# Altium schematic symbol library 3.0 - STM32L0-L1-L4系列单片机.SchLib: 39 symbols (part 2 of 3)
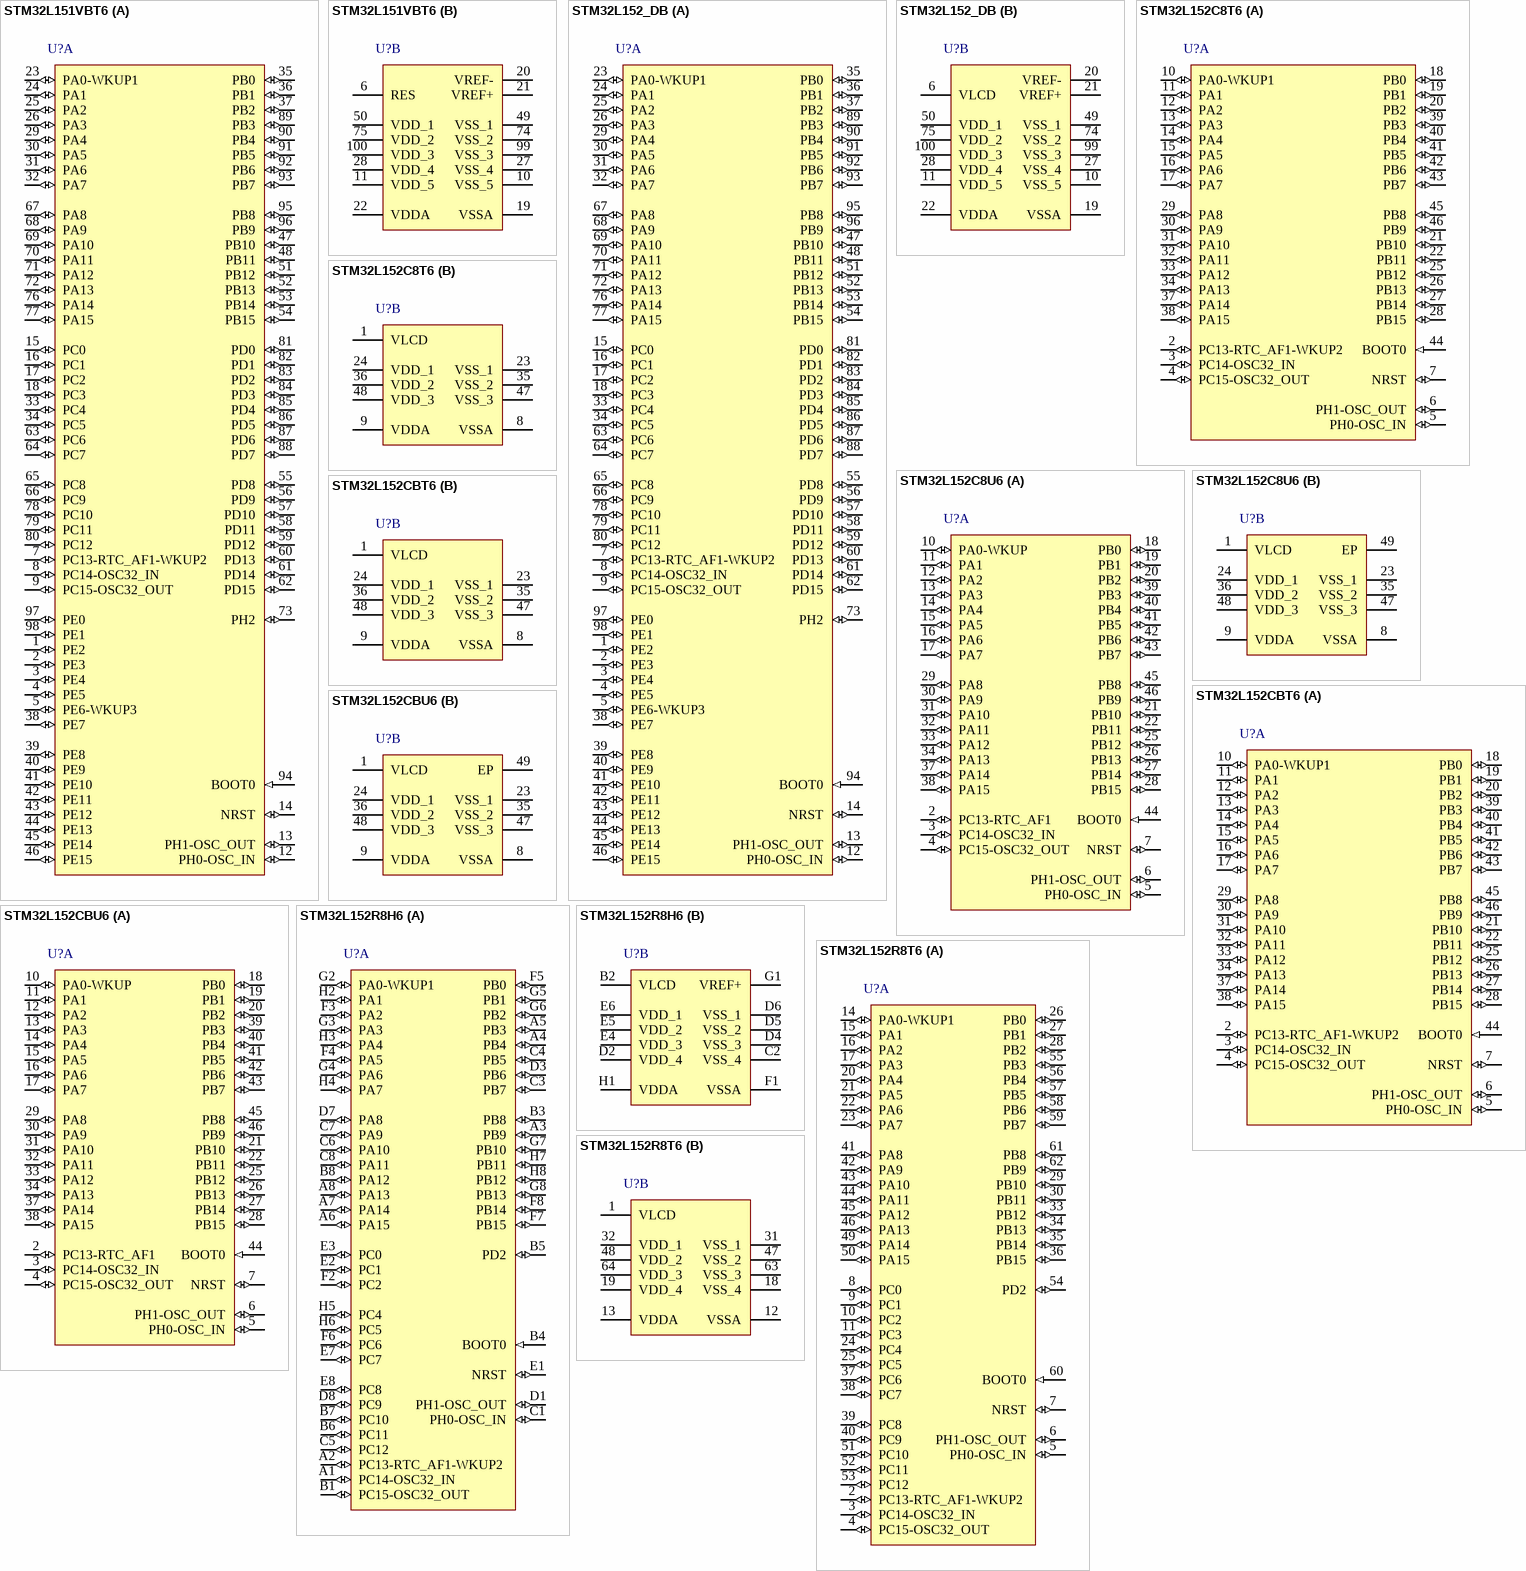
[diagram p7: symbols STM32L151VBT6 to STM32L152R8T6]

## STM32L152C8T6
designator U?
STM32L ARM-based EnergyLite 32-bit MCU, LCD, 64 kB Flash, 10 kB Internal RAM, -40 to +85癈 Temperature, 48-pin LQFP, Tray; 封装库来自淘宝卖家ID：黄晶宝石: 其他店铺购入均为盗版假冒封装库,请立即申请退款，本店现金奖励100~1000元; DatasheetVersion: rev6, Jan-2012; PackageVersion: rev13, Apr-2011; PackageReference: LQFP48; PackageDescription: 48-Pin Low-Profile Quad Flat Pack, 7 x 7 mm Body, 0.5 mm Pitch (LQFP48); ComponentLink1Description: Manufacturer URL; ComponentLink1URL: http://www.st.com/; ComponentLink2Description: STM32L151/152 Datasheet; ComponentLink2URL: http://www.st.com/internet/com/TECHNICAL_RESOURCES/TECHNICAL_LITERATURE/DATASHEET/CD00277537.pdf; ComponentLink3Description: STM32 L1 Family Web Page; ComponentLink3URL: http://www.st.com/internet/mcu/subclass/1376.jsp
footprint LQFP48_N (Thin QFP, 48-Leads, Body 7x7mm, Pitch 0.5mm, IPC Medium Density)
footprint LQFP48_L (Thin QFP, 48-Leads, Body 7x7mm, Pitch 0.5mm, IPC High Density)
footprint LQFP48_M (Thin QFP, 48-Leads, Body 7x7mm, Pitch 0.5mm, IPC Low Density)
part A pins: 2 PC13-RTC_AF1-WKUP2 (io), 3 PC14-OSC32_IN (io), 4 PC15-OSC32_OUT (io), 5 PH0-OSC_IN (io), 6 PH1-OSC_OUT (io), 7 NRST (io), 10 PA0-WKUP1 (io), 11 PA1 (io), 12 PA2 (io), 13 PA3 (io), 14 PA4 (io), 15 PA5 (io), 16 PA6 (io), 17 PA7 (io), 18 PB0 (io), 19 PB1 (io), 20 PB2 (io), 21 PB10 (io), 22 PB11 (io), 25 PB12 (io), 26 PB13 (io), 27 PB14 (io), 28 PB15 (io), 29 PA8 (io), 30 PA9 (io), 31 PA10 (io), 32 PA11 (io), 33 PA12 (io), 34 PA13 (io), 37 PA14 (io), 38 PA15 (io), 39 PB3 (io), 40 PB4 (io), 41 PB5 (io), 42 PB6 (io), 43 PB7 (io), 44 BOOT0 (in), 45 PB8 (io), 46 PB9 (io)
part B pins: 1 VLCD (power), 8 VSSA (power), 9 VDDA (power), 23 VSS_1 (power), 24 VDD_1 (power), 35 VSS_2 (power), 36 VDD_2 (power), 47 VSS_3 (power), 48 VDD_3 (power)

## STM32L152C8U6
designator U?
STM32L ARM-based EnergyLite 32-bit MCU, LCD, 64 kB Flash, 10 kB Internal RAM, -40 to +85癈 Temperature, 48-pin UFQFPN, Tray; 封装库来自淘宝卖家ID：黄晶宝石: 其他店铺购入均为盗版假冒封装库,请立即申请退款，本店现金奖励100~1000元; DatasheetVersion: rev6, Jan-2012; PackageVersion: 2011; PackageReference: UFQFPN48; PackageDescription: 48-Pin Ultra Thin Fine Pitch Quad Flat No-Lead, 7 x 7 x 0.55 mm Body, 0.5 mm Pitch, Exposed Pad; ComponentLink1Description: Manufacturer URL; ComponentLink1URL: http://www.st.com/; ComponentLink2Description: STM32L151/152 Datasheet; ComponentLink2URL: http://www.st.com/internet/com/TECHNICAL_RESOURCES/TECHNICAL_LITERATURE/DATASHEET/CD00277537.pdf; ComponentLink3Description: STM32 L1 Family Web Page; ComponentLink3URL: http://www.st.com/internet/mcu/subclass/1376.jsp
footprint UFQFPN48_N (QFN, 48-Leads, Body 7x7mm, Pitch 0.5mm, Thermal Pad 5.6x5.6mm, IPC Medium Density)
footprint UFQFPN48_L (QFN, 48-Leads, Body 7x7mm, Pitch 0.5mm, Thermal Pad 5.6x5.6mm, IPC High Density)
footprint UFQFPN48_M (QFN, 48-Leads, Body 7x7mm, Pitch 0.5mm, Thermal Pad 5.6x5.6mm, IPC Low Density)
part A pins: 2 PC13-RTC_AF1 (io), 3 PC14-OSC32_IN (io), 4 PC15-OSC32_OUT (io), 5 PH0-OSC_IN (io), 6 PH1-OSC_OUT (io), 7 NRST (io), 10 PA0-WKUP (io), 11 PA1 (io), 12 PA2 (io), 13 PA3 (io), 14 PA4 (io), 15 PA5 (io), 16 PA6 (io), 17 PA7 (io), 18 PB0 (io), 19 PB1 (io), 20 PB2 (io), 21 PB10 (io), 22 PB11 (io), 25 PB12 (io), 26 PB13 (io), 27 PB14 (io), 28 PB15 (io), 29 PA8 (io), 30 PA9 (io), 31 PA10 (io), 32 PA11 (io), 33 PA12 (io), 34 PA13 (io), 37 PA14 (io), 38 PA15 (io), 39 PB3 (io), 40 PB4 (io), 41 PB5 (io), 42 PB6 (io), 43 PB7 (io), 44 BOOT0 (in), 45 PB8 (io), 46 PB9 (io)
part B pins: 1 VLCD (power), 8 VSSA (power), 9 VDDA (power), 23 VSS_1 (power), 24 VDD_1 (power), 35 VSS_2 (power), 36 VDD_2 (power), 47 VSS_3 (power), 48 VDD_3 (power), 49 EP (power)

## STM32L152CBT6
designator U?
STM32L ARM-based EnergyLite 32-bit MCU, LCD, 128 kB Flash, 16 kB Internal RAM, -40 to +85癈 Temperature, 48-pin LQFP, Tray; 封装库来自淘宝卖家ID：黄晶宝石: 其他店铺购入均为盗版假冒封装库,请立即申请退款，本店现金奖励100~1000元; DatasheetVersion: rev6, Jan-2012; PackageVersion: rev13, Apr-2011; PackageReference: LQFP48; PackageDescription: 48-Pin Low-Profile Quad Flat Pack, 7 x 7 mm Body, 0.5 mm Pitch (LQFP48); ComponentLink1Description: Manufacturer URL; ComponentLink1URL: http://www.st.com/; ComponentLink2Description: STM32L151/152 Datasheet; ComponentLink2URL: http://www.st.com/internet/com/TECHNICAL_RESOURCES/TECHNICAL_LITERATURE/DATASHEET/CD00277537.pdf; ComponentLink3Description: STM32 L1 Family Web Page; ComponentLink3URL: http://www.st.com/internet/mcu/subclass/1376.jsp
footprint LQFP48_N (Thin QFP, 48-Leads, Body 7x7mm, Pitch 0.5mm, IPC Medium Density)
footprint LQFP48_L (Thin QFP, 48-Leads, Body 7x7mm, Pitch 0.5mm, IPC High Density)
footprint LQFP48_M (Thin QFP, 48-Leads, Body 7x7mm, Pitch 0.5mm, IPC Low Density)
part A pins: 2 PC13-RTC_AF1-WKUP2 (io), 3 PC14-OSC32_IN (io), 4 PC15-OSC32_OUT (io), 5 PH0-OSC_IN (io), 6 PH1-OSC_OUT (io), 7 NRST (io), 10 PA0-WKUP1 (io), 11 PA1 (io), 12 PA2 (io), 13 PA3 (io), 14 PA4 (io), 15 PA5 (io), 16 PA6 (io), 17 PA7 (io), 18 PB0 (io), 19 PB1 (io), 20 PB2 (io), 21 PB10 (io), 22 PB11 (io), 25 PB12 (io), 26 PB13 (io), 27 PB14 (io), 28 PB15 (io), 29 PA8 (io), 30 PA9 (io), 31 PA10 (io), 32 PA11 (io), 33 PA12 (io), 34 PA13 (io), 37 PA14 (io), 38 PA15 (io), 39 PB3 (io), 40 PB4 (io), 41 PB5 (io), 42 PB6 (io), 43 PB7 (io), 44 BOOT0 (in), 45 PB8 (io), 46 PB9 (io)
part B pins: 1 VLCD (power), 8 VSSA (power), 9 VDDA (power), 23 VSS_1 (power), 24 VDD_1 (power), 35 VSS_2 (power), 36 VDD_2 (power), 47 VSS_3 (power), 48 VDD_3 (power)

## STM32L152CBU6
designator U?
STM32L ARM-based EnergyLite 32-bit MCU, LCD, 128 kB Flash, 16 kB Internal RAM, -40 to +85癈 Temperature, 48-pin UFQFPN, Tray; 封装库来自淘宝卖家ID：黄晶宝石: 其他店铺购入均为盗版假冒封装库,请立即申请退款，本店现金奖励100~1000元; DatasheetVersion: rev6, Jan-2012; PackageVersion: 2011; PackageReference: UFQFPN48; PackageDescription: 48-Pin Ultra Thin Fine Pitch Quad Flat No-Lead, 7 x 7 x 0.55 mm Body, 0.5 mm Pitch, Exposed Pad; ComponentLink1Description: Manufacturer URL; ComponentLink1URL: http://www.st.com/; ComponentLink2Description: STM32L151/152 Datasheet; ComponentLink2URL: http://www.st.com/internet/com/TECHNICAL_RESOURCES/TECHNICAL_LITERATURE/DATASHEET/CD00277537.pdf; ComponentLink3Description: STM32 L1 Family Web Page; ComponentLink3URL: http://www.st.com/internet/mcu/subclass/1376.jsp
footprint UFQFPN48_N (QFN, 48-Leads, Body 7x7mm, Pitch 0.5mm, Thermal Pad 5.6x5.6mm, IPC Medium Density)
footprint UFQFPN48_L (QFN, 48-Leads, Body 7x7mm, Pitch 0.5mm, Thermal Pad 5.6x5.6mm, IPC High Density)
footprint UFQFPN48_M (QFN, 48-Leads, Body 7x7mm, Pitch 0.5mm, Thermal Pad 5.6x5.6mm, IPC Low Density)
part A pins: 2 PC13-RTC_AF1 (io), 3 PC14-OSC32_IN (io), 4 PC15-OSC32_OUT (io), 5 PH0-OSC_IN (io), 6 PH1-OSC_OUT (io), 7 NRST (io), 10 PA0-WKUP (io), 11 PA1 (io), 12 PA2 (io), 13 PA3 (io), 14 PA4 (io), 15 PA5 (io), 16 PA6 (io), 17 PA7 (io), 18 PB0 (io), 19 PB1 (io), 20 PB2 (io), 21 PB10 (io), 22 PB11 (io), 25 PB12 (io), 26 PB13 (io), 27 PB14 (io), 28 PB15 (io), 29 PA8 (io), 30 PA9 (io), 31 PA10 (io), 32 PA11 (io), 33 PA12 (io), 34 PA13 (io), 37 PA14 (io), 38 PA15 (io), 39 PB3 (io), 40 PB4 (io), 41 PB5 (io), 42 PB6 (io), 43 PB7 (io), 44 BOOT0 (in), 45 PB8 (io), 46 PB9 (io)
part B pins: 1 VLCD (power), 8 VSSA (power), 9 VDDA (power), 23 VSS_1 (power), 24 VDD_1 (power), 35 VSS_2 (power), 36 VDD_2 (power), 47 VSS_3 (power), 48 VDD_3 (power), 49 EP (power)

## STM32L152R8H6
designator U?
STM32L ARM-based EnergyLite 32-bit MCU, LCD, 64 kB Flash, 10 kB Internal RAM, -40 to +85癈 Temperature, 64-pin TFBGA, Tray; 封装库来自淘宝卖家ID：黄晶宝石: 其他店铺购入均为盗版假冒封装库,请立即申请退款，本店现金奖励100~1000元; DatasheetVersion: rev6, Jan-2012; PackageVersion: 2011; PackageReference: TFBGA64; PackageDescription: 64-Ball Thin Fine-Pitch BGA (8x8 Array), 5 x 5 mm Body, 0.5 mm Pitch; ComponentLink1Description: Manufacturer URL; ComponentLink1URL: http://www.st.com/; ComponentLink2Description: STM32L151/152 Datasheet; ComponentLink2URL: http://www.st.com/internet/com/TECHNICAL_RESOURCES/TECHNICAL_LITERATURE/DATASHEET/CD00277537.pdf; ComponentLink3Description: STM32 L1 Family Web Page; ComponentLink3URL: http://www.st.com/internet/mcu/subclass/1376.jsp
footprint TFBGA64 (BGA, 64-Leads, Body 5x5mm, Pitch 0.5mm)
part A pins: A1 PC14-OSC32_IN (io), A2 PC13-RTC_AF1-WKUP2 (io), A3 PB9 (io), A4 PB4 (io), A5 PB3 (io), A6 PA15 (io), A7 PA14 (io), A8 PA13 (io), B1 PC15-OSC32_OUT (io), B3 PB8 (io), B4 BOOT0 (in), B5 PD2 (io), B6 PC11 (io), B7 PC10 (io), B8 PA12 (io), C1 PH0-OSC_IN (io), C3 PB7 (io), C4 PB5 (io), C5 PC12 (io), C6 PA10 (io), C7 PA9 (io), C8 PA11 (io), D1 PH1-OSC_OUT (io), D3 PB6 (io), D7 PA8 (io), D8 PC9 (io), E1 NRST (io), E2 PC1 (io), E3 PC0 (io), E7 PC7 (io), E8 PC8 (io), F2 PC2 (io), F3 PA2 (io), F4 PA5 (io), F5 PB0 (io), F6 PC6 (io), F7 PB15 (io), F8 PB14 (io), G2 PA0-WKUP1 (io), G3 PA3 (io), G4 PA6 (io), G5 PB1 (io), G6 PB2 (io), G7 PB10 (io), G8 PB13 (io), H2 PA1 (io), H3 PA4 (io), H4 PA7 (io), H5 PC4 (io), H6 PC5 (io), H7 PB11 (io), H8 PB12 (io)
part B pins: B2 VLCD (power), C2 VSS_4 (power), D2 VDD_4 (power), D4 VSS_3 (power), D5 VSS_2 (power), D6 VSS_1 (power), E4 VDD_3 (power), E5 VDD_2 (power), E6 VDD_1 (power), F1 VSSA (power), G1 VREF+ (power), H1 VDDA (power)

## STM32L152R8T6
designator U?
STM32L ARM-based EnergyLite 32-bit MCU, LCD, 64 kB Flash, 10 kB Internal RAM, -40 to +85癈 Temperature, 64-pin LQFP, Tray; 封装库来自淘宝卖家ID：黄晶宝石: 其他店铺购入均为盗版假冒封装库,请立即申请退款，本店现金奖励100~1000元; DatasheetVersion: rev6, Jan-2012; PackageVersion: rev13, Apr-2011; PackageReference: LQFP64; PackageDescription: 64-Pin Low-Profile Quad Flat Pack, 10 x 10 mm Body, 0.5 mm Pitch (LQFP64); ComponentLink1Description: Manufacturer URL; ComponentLink1URL: http://www.st.com/; ComponentLink2Description: STM32L151/152 Datasheet; ComponentLink2URL: http://www.st.com/internet/com/TECHNICAL_RESOURCES/TECHNICAL_LITERATURE/DATASHEET/CD00277537.pdf; ComponentLink3Description: STM32 L1 Family Web Page; ComponentLink3URL: http://www.st.com/internet/mcu/subclass/1376.jsp
footprint LQFP64_N (Thin QFP, 64-Leads, Body 10x10mm, Pitch 0.5mm, IPC Medium Density)
footprint LQFP64_L (Thin QFP, 64-Leads, Body 10x10mm, Pitch 0.5mm, IPC High Density)
footprint LQFP64_M (Thin QFP, 64-Leads, Body 10x10mm, Pitch 0.5mm, IPC Low Density)
part A pins: 2 PC13-RTC_AF1-WKUP2 (io), 3 PC14-OSC32_IN (io), 4 PC15-OSC32_OUT (io), 5 PH0-OSC_IN (io), 6 PH1-OSC_OUT (io), 7 NRST (io), 8 PC0 (io), 9 PC1 (io), 10 PC2 (io), 11 PC3 (io), 14 PA0-WKUP1 (io), 15 PA1 (io), 16 PA2 (io), 17 PA3 (io), 20 PA4 (io), 21 PA5 (io), 22 PA6 (io), 23 PA7 (io), 24 PC4 (io), 25 PC5 (io), 26 PB0 (io), 27 PB1 (io), 28 PB2 (io), 29 PB10 (io), 30 PB11 (io), 33 PB12 (io), 34 PB13 (io), 35 PB14 (io), 36 PB15 (io), 37 PC6 (io), 38 PC7 (io), 39 PC8 (io), 40 PC9 (io), 41 PA8 (io), 42 PA9 (io), 43 PA10 (io), 44 PA11 (io), 45 PA12 (io), 46 PA13 (io), 49 PA14 (io), 50 PA15 (io), 51 PC10 (io), 52 PC11 (io), 53 PC12 (io), 54 PD2 (io), 55 PB3 (io), 56 PB4 (io), 57 PB5 (io), 58 PB6 (io), 59 PB7 (io), 60 BOOT0 (in), 61 PB8 (io), 62 PB9 (io)
part B pins: 1 VLCD (power), 12 VSSA (power), 13 VDDA (power), 18 VSS_4 (power), 19 VDD_4 (power), 31 VSS_1 (power), 32 VDD_1 (power), 47 VSS_2 (power), 48 VDD_2 (power), 63 VSS_3 (power), 64 VDD_3 (power)

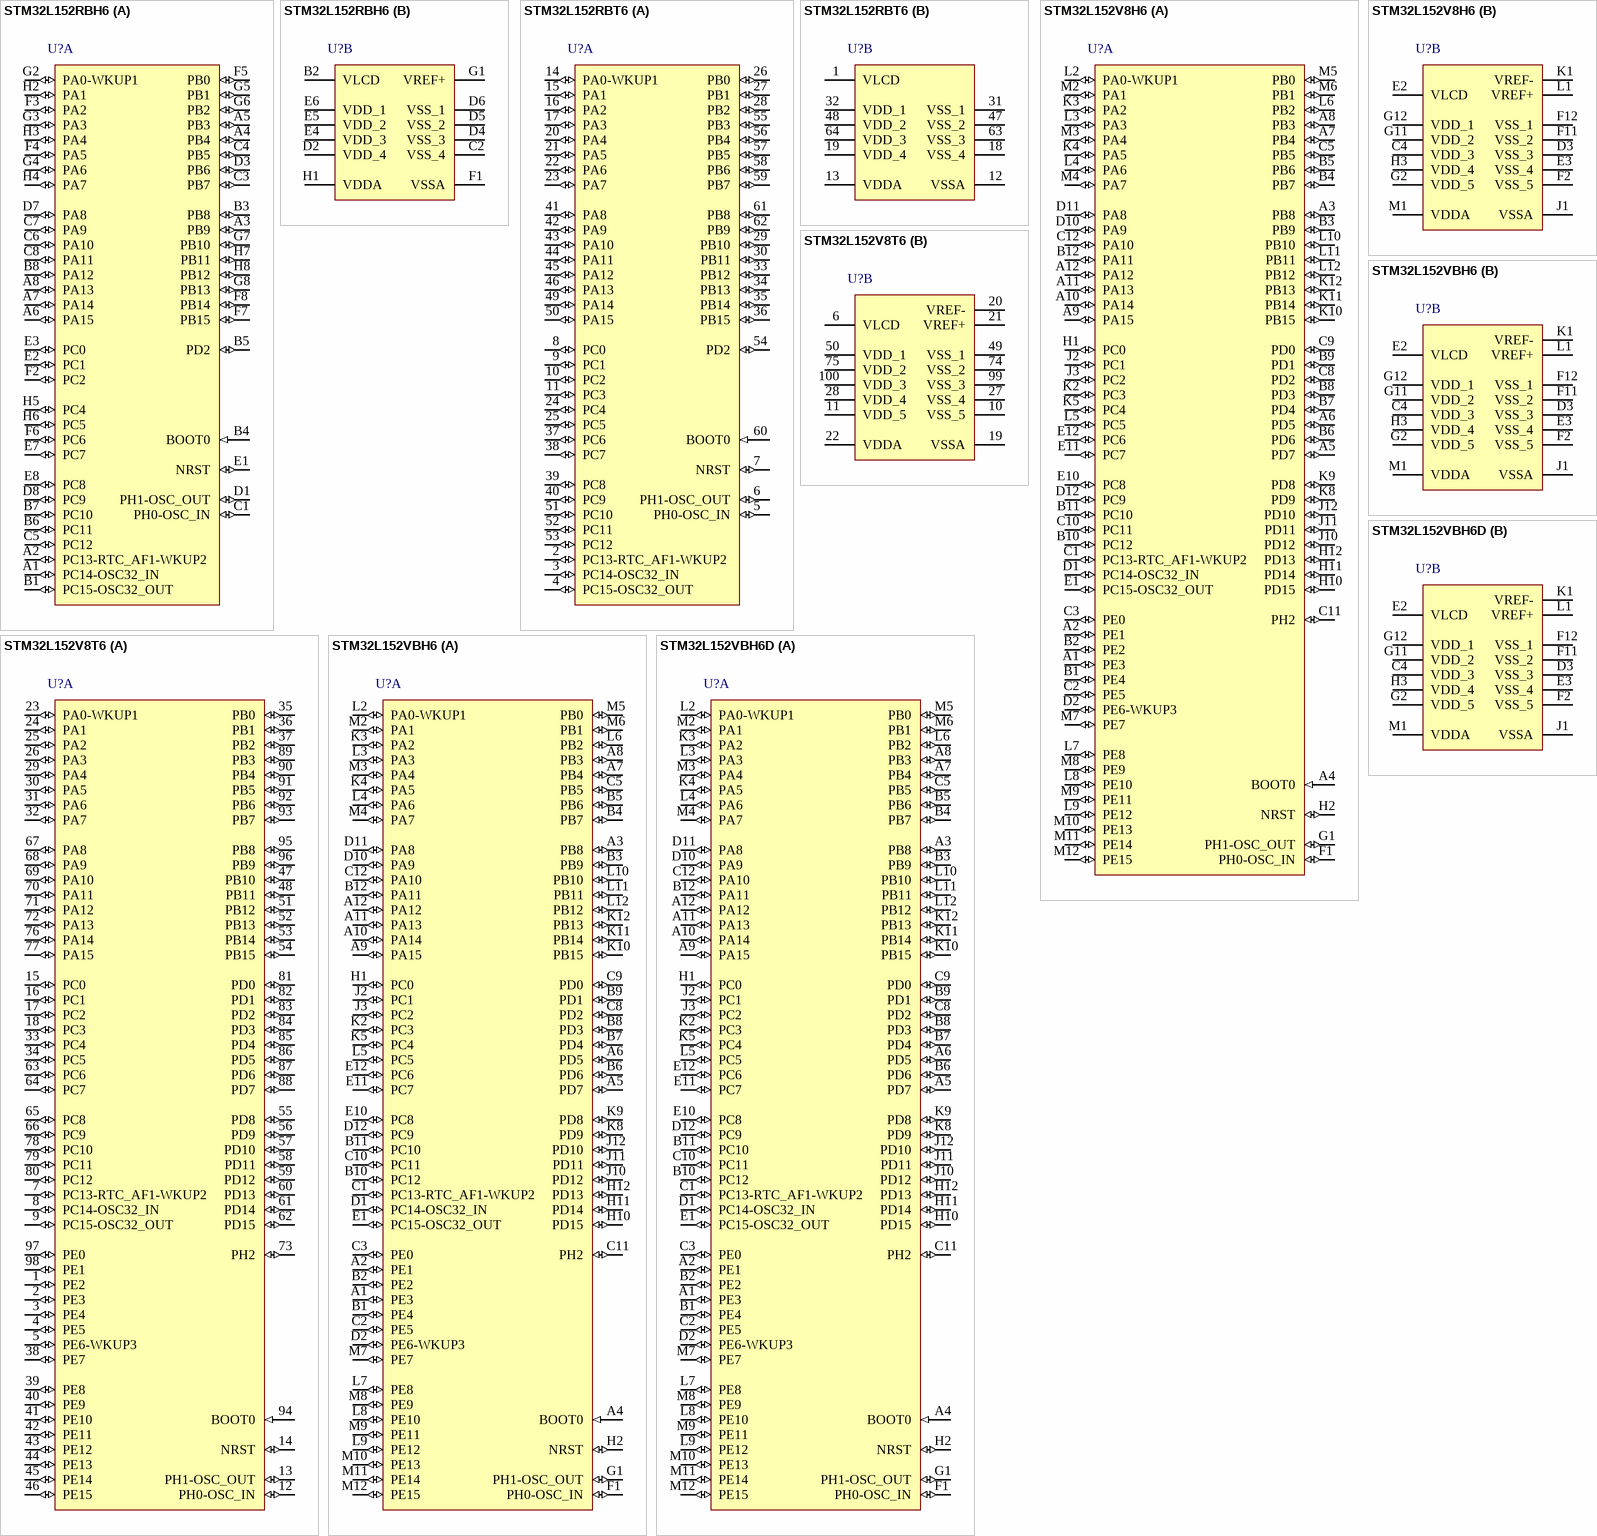
[diagram p4: symbols STM32L152RBH6 to STM32L152VBH6D]

## STM32L152RBH6
designator U?
STM32L ARM-based EnergyLite 32-bit MCU, LCD, 128 kB Flash, 16 kB Internal RAM, -40 to +85癈 Temperature, 64-pin TFBGA, Tray; 封装库来自淘宝卖家ID：黄晶宝石: 其他店铺购入均为盗版假冒封装库,请立即申请退款，本店现金奖励100~1000元; DatasheetVersion: rev6, Jan-2012; PackageVersion: 2011; PackageReference: TFBGA64; PackageDescription: 64-Ball Thin Fine-Pitch BGA (8x8 Array), 5 x 5 mm Body, 0.5 mm Pitch; ComponentLink1Description: Manufacturer URL; ComponentLink1URL: http://www.st.com/; ComponentLink2Description: STM32L151/152 Datasheet; ComponentLink2URL: http://www.st.com/internet/com/TECHNICAL_RESOURCES/TECHNICAL_LITERATURE/DATASHEET/CD00277537.pdf; ComponentLink3Description: STM32 L1 Family Web Page; ComponentLink3URL: http://www.st.com/internet/mcu/subclass/1376.jsp
footprint TFBGA64 (BGA, 64-Leads, Body 5x5mm, Pitch 0.5mm)
part A pins: A1 PC14-OSC32_IN (io), A2 PC13-RTC_AF1-WKUP2 (io), A3 PB9 (io), A4 PB4 (io), A5 PB3 (io), A6 PA15 (io), A7 PA14 (io), A8 PA13 (io), B1 PC15-OSC32_OUT (io), B3 PB8 (io), B4 BOOT0 (in), B5 PD2 (io), B6 PC11 (io), B7 PC10 (io), B8 PA12 (io), C1 PH0-OSC_IN (io), C3 PB7 (io), C4 PB5 (io), C5 PC12 (io), C6 PA10 (io), C7 PA9 (io), C8 PA11 (io), D1 PH1-OSC_OUT (io), D3 PB6 (io), D7 PA8 (io), D8 PC9 (io), E1 NRST (io), E2 PC1 (io), E3 PC0 (io), E7 PC7 (io), E8 PC8 (io), F2 PC2 (io), F3 PA2 (io), F4 PA5 (io), F5 PB0 (io), F6 PC6 (io), F7 PB15 (io), F8 PB14 (io), G2 PA0-WKUP1 (io), G3 PA3 (io), G4 PA6 (io), G5 PB1 (io), G6 PB2 (io), G7 PB10 (io), G8 PB13 (io), H2 PA1 (io), H3 PA4 (io), H4 PA7 (io), H5 PC4 (io), H6 PC5 (io), H7 PB11 (io), H8 PB12 (io)
part B pins: B2 VLCD (power), C2 VSS_4 (power), D2 VDD_4 (power), D4 VSS_3 (power), D5 VSS_2 (power), D6 VSS_1 (power), E4 VDD_3 (power), E5 VDD_2 (power), E6 VDD_1 (power), F1 VSSA (power), G1 VREF+ (power), H1 VDDA (power)

## STM32L152RBT6
designator U?
STM32L ARM-based EnergyLite 32-bit MCU, LCD, 128 kB Flash, 16 kB Internal RAM, -40 to +85癈 Temperature, 64-pin LQFP, Tray; 封装库来自淘宝卖家ID：黄晶宝石: 其他店铺购入均为盗版假冒封装库,请立即申请退款，本店现金奖励100~1000元; DatasheetVersion: rev6, Jan-2012; PackageVersion: rev13, Apr-2011; PackageReference: LQFP64; PackageDescription: 64-Pin Low-Profile Quad Flat Pack, 10 x 10 mm Body, 0.5 mm Pitch (LQFP64); ComponentLink1Description: Manufacturer URL; ComponentLink1URL: http://www.st.com/; ComponentLink2Description: STM32L151/152 Datasheet; ComponentLink2URL: http://www.st.com/internet/com/TECHNICAL_RESOURCES/TECHNICAL_LITERATURE/DATASHEET/CD00277537.pdf; ComponentLink3Description: STM32 L1 Family Web Page; ComponentLink3URL: http://www.st.com/internet/mcu/subclass/1376.jsp
footprint LQFP64_N (Thin QFP, 64-Leads, Body 10x10mm, Pitch 0.5mm, IPC Medium Density)
footprint LQFP64_L (Thin QFP, 64-Leads, Body 10x10mm, Pitch 0.5mm, IPC High Density)
footprint LQFP64_M (Thin QFP, 64-Leads, Body 10x10mm, Pitch 0.5mm, IPC Low Density)
part A pins: 2 PC13-RTC_AF1-WKUP2 (io), 3 PC14-OSC32_IN (io), 4 PC15-OSC32_OUT (io), 5 PH0-OSC_IN (io), 6 PH1-OSC_OUT (io), 7 NRST (io), 8 PC0 (io), 9 PC1 (io), 10 PC2 (io), 11 PC3 (io), 14 PA0-WKUP1 (io), 15 PA1 (io), 16 PA2 (io), 17 PA3 (io), 20 PA4 (io), 21 PA5 (io), 22 PA6 (io), 23 PA7 (io), 24 PC4 (io), 25 PC5 (io), 26 PB0 (io), 27 PB1 (io), 28 PB2 (io), 29 PB10 (io), 30 PB11 (io), 33 PB12 (io), 34 PB13 (io), 35 PB14 (io), 36 PB15 (io), 37 PC6 (io), 38 PC7 (io), 39 PC8 (io), 40 PC9 (io), 41 PA8 (io), 42 PA9 (io), 43 PA10 (io), 44 PA11 (io), 45 PA12 (io), 46 PA13 (io), 49 PA14 (io), 50 PA15 (io), 51 PC10 (io), 52 PC11 (io), 53 PC12 (io), 54 PD2 (io), 55 PB3 (io), 56 PB4 (io), 57 PB5 (io), 58 PB6 (io), 59 PB7 (io), 60 BOOT0 (in), 61 PB8 (io), 62 PB9 (io)
part B pins: 1 VLCD (power), 12 VSSA (power), 13 VDDA (power), 18 VSS_4 (power), 19 VDD_4 (power), 31 VSS_1 (power), 32 VDD_1 (power), 47 VSS_2 (power), 48 VDD_2 (power), 63 VSS_3 (power), 64 VDD_3 (power)

## STM32L152V8H6
designator U?
STM32L ARM-based EnergyLite 32-bit MCU, LCD, 64 kB Flash, 10 kB Internal RAM, -40 to +85癈 Temperature, 100-pin UFBGA, Tray; 封装库来自淘宝卖家ID：黄晶宝石: 其他店铺购入均为盗版假冒封装库,请立即申请退款，本店现金奖励100~1000元; DatasheetVersion: rev6, Jan-2012; PackageVersion: 2011; PackageReference: UFBGA100; PackageDescription: 100-Ball Ultra Fine-Pitch Ball Grid Array, 7 x 7 mm Body, 0.5 mm Pitch; ComponentLink1Description: Manufacturer URL; ComponentLink1URL: http://www.st.com/; ComponentLink2Description: STM32L151/152 Datasheet; ComponentLink2URL: http://www.st.com/internet/com/TECHNICAL_RESOURCES/TECHNICAL_LITERATURE/DATASHEET/CD00277537.pdf; ComponentLink3Description: STM32 L1 Family Web Page; ComponentLink3URL: http://www.st.com/internet/mcu/subclass/1376.jsp
footprint UFBGA100 (BGA, 100-Leads, Body 7x7mm, Pitch 0.5mm)
part A pins: A1 PE3 (io), A2 PE1 (io), A3 PB8 (io), A4 BOOT0 (in), A5 PD7 (io), A6 PD5 (io), A7 PB4 (io), A8 PB3 (io), A9 PA15 (io), A10 PA14 (io), A11 PA13 (io), A12 PA12 (io), B1 PE4 (io), B2 PE2 (io), B3 PB9 (io), B4 PB7 (io), B5 PB6 (io), B6 PD6 (io), B7 PD4 (io), B8 PD3 (io), B9 PD1 (io), B10 PC12 (io), B11 PC10 (io), B12 PA11 (io), C1 PC13-RTC_AF1-WKUP2 (io), C2 PE5 (io), C3 PE0 (io), C5 PB5 (io), C8 PD2 (io), C9 PD0 (io), C10 PC11 (io), C11 PH2 (io), C12 PA10 (io), D1 PC14-OSC32_IN (io), D2 PE6-WKUP3 (io), D10 PA9 (io), D11 PA8 (io), D12 PC9 (io), E1 PC15-OSC32_OUT (io), E10 PC8 (io), E11 PC7 (io), E12 PC6 (io), F1 PH0-OSC_IN (io), G1 PH1-OSC_OUT (io), H1 PC0 (io), H2 NRST (io), H10 PD15 (io), H11 PD14 (io), H12 PD13 (io), J2 PC1 (io), J3 PC2 (io), J10 PD12 (io), J11 PD11 (io), J12 PD10 (io), K2 PC3 (io), K3 PA2 (io), K4 PA5 (io), K5 PC4 (io), K8 PD9 (io), K9 PD8 (io), K10 PB15 (io), K11 PB14 (io), K12 PB13 (io), L2 PA0-WKUP1 (io), L3 PA3 (io), L4 PA6 (io), L5 PC5 (io), L6 PB2 (io), L7 PE8 (io), L8 PE10 (io), L9 PE12 (io), L10 PB10 (io), L11 PB11 (io), L12 PB12 (io), M2 PA1 (io), M3 PA4 (io), M4 PA7 (io), M5 PB0 (io), M6 PB1 (io), M7 PE7 (io), M8 PE9 (io), M9 PE11 (io), M10 PE13 (io), M11 PE14 (io), M12 PE15 (io)
part B pins: C4 VDD_3 (power), D3 VSS_3 (power), E2 VLCD (power), E3 VSS_4 (power), F2 VSS_5 (power), F11 VSS_2 (power), F12 VSS_1 (power), G2 VDD_5 (power), G11 VDD_2 (power), G12 VDD_1 (power), H3 VDD_4 (power), J1 VSSA (power), K1 VREF- (power), L1 VREF+ (power), M1 VDDA (power)

## STM32L152V8T6
designator U?
STM32L ARM-based EnergyLite 32-bit MCU, LCD, 64 kB Flash, 10 kB Internal RAM, -40 to +85癈 Temperature, 100-pin LQFP, Tray; 封装库来自淘宝卖家ID：黄晶宝石: 其他店铺购入均为盗版假冒封装库,请立即申请退款，本店现金奖励100~1000元; DatasheetVersion: rev6, Jan-2012; PackageVersion: 2012; PackageReference: LQFP100; PackageDescription: 100-Pin Low Profile Quad Flat Package, 14x14 mm Body, 0.5 mm Pitch; ComponentLink1Description: Manufacturer URL; ComponentLink1URL: http://www.st.com/; ComponentLink2Description: STM32L151/152 Datasheet; ComponentLink2URL: http://www.st.com/internet/com/TECHNICAL_RESOURCES/TECHNICAL_LITERATURE/DATASHEET/CD00277537.pdf; ComponentLink3Description: STM32 L1 Family Web Page; ComponentLink3URL: http://www.st.com/internet/mcu/subclass/1376.jsp
footprint LQFP100_V (Thin QFP, 100-Leads, Body 14x14mm, Pitch 0.5mm, ST Recommended)
footprint LQFP100_N (Thin QFP, 100-Leads, Body 14x14mm, Pitch 0.5mm, IPC Medium Density)
footprint LQFP100_L (Thin QFP, 100-Leads, Body 14x14mm, Pitch 0.5mm, IPC High Density)
footprint LQFP100_M (Thin QFP, 100-Leads, Body 14x14mm, Pitch 0.5mm, IPC Low Density)
part A pins: 1 PE2 (io), 2 PE3 (io), 3 PE4 (io), 4 PE5 (io), 5 PE6-WKUP3 (io), 7 PC13-RTC_AF1-WKUP2 (io), 8 PC14-OSC32_IN (io), 9 PC15-OSC32_OUT (io), 12 PH0-OSC_IN (io), 13 PH1-OSC_OUT (io), 14 NRST (io), 15 PC0 (io), 16 PC1 (io), 17 PC2 (io), 18 PC3 (io), 23 PA0-WKUP1 (io), 24 PA1 (io), 25 PA2 (io), 26 PA3 (io), 29 PA4 (io), 30 PA5 (io), 31 PA6 (io), 32 PA7 (io), 33 PC4 (io), 34 PC5 (io), 35 PB0 (io), 36 PB1 (io), 37 PB2 (io), 38 PE7 (io), 39 PE8 (io), 40 PE9 (io), 41 PE10 (io), 42 PE11 (io), 43 PE12 (io), 44 PE13 (io), 45 PE14 (io), 46 PE15 (io), 47 PB10 (io), 48 PB11 (io), 51 PB12 (io), 52 PB13 (io), 53 PB14 (io), 54 PB15 (io), 55 PD8 (io), 56 PD9 (io), 57 PD10 (io), 58 PD11 (io), 59 PD12 (io), 60 PD13 (io), 61 PD14 (io), 62 PD15 (io), 63 PC6 (io), 64 PC7 (io), 65 PC8 (io), 66 PC9 (io), 67 PA8 (io), 68 PA9 (io), 69 PA10 (io), 70 PA11 (io), 71 PA12 (io), 72 PA13 (io), 73 PH2 (io), 76 PA14 (io), 77 PA15 (io), 78 PC10 (io), 79 PC11 (io), 80 PC12 (io), 81 PD0 (io), 82 PD1 (io), 83 PD2 (io), 84 PD3 (io), 85 PD4 (io), 86 PD5 (io), 87 PD6 (io), 88 PD7 (io), 89 PB3 (io), 90 PB4 (io), 91 PB5 (io), 92 PB6 (io), 93 PB7 (io), 94 BOOT0 (in), 95 PB8 (io), 96 PB9 (io), 97 PE0 (io), 98 PE1 (io)
part B pins: 6 VLCD (power), 10 VSS_5 (power), 11 VDD_5 (power), 19 VSSA (power), 20 VREF- (power), 21 VREF+ (power), 22 VDDA (power), 27 VSS_4 (power), 28 VDD_4 (power), 49 VSS_1 (power), 50 VDD_1 (power), 74 VSS_2 (power), 75 VDD_2 (power), 99 VSS_3 (power), 100 VDD_3 (power)

## STM32L152VBH6
designator U?
STM32L ARM-based EnergyLite 32-bit MCU, LCD, 128 kB Flash, 16 kB Internal RAM, -40 to +85癈 Temperature, 100-pin UFBGA, Tray; 封装库来自淘宝卖家ID：黄晶宝石: 其他店铺购入均为盗版假冒封装库,请立即申请退款，本店现金奖励100~1000元; DatasheetVersion: rev6, Jan-2012; PackageVersion: 2011; PackageReference: UFBGA100; PackageDescription: 100-Ball Ultra Fine-Pitch Ball Grid Array, 7 x 7 mm Body, 0.5 mm Pitch; ComponentLink1Description: Manufacturer URL; ComponentLink1URL: http://www.st.com/; ComponentLink2Description: STM32L151/152 Datasheet; ComponentLink2URL: http://www.st.com/internet/com/TECHNICAL_RESOURCES/TECHNICAL_LITERATURE/DATASHEET/CD00277537.pdf; ComponentLink3Description: STM32 L1 Family Web Page; ComponentLink3URL: http://www.st.com/internet/mcu/subclass/1376.jsp
footprint UFBGA100 (BGA, 100-Leads, Body 7x7mm, Pitch 0.5mm)
part A pins: A1 PE3 (io), A2 PE1 (io), A3 PB8 (io), A4 BOOT0 (in), A5 PD7 (io), A6 PD5 (io), A7 PB4 (io), A8 PB3 (io), A9 PA15 (io), A10 PA14 (io), A11 PA13 (io), A12 PA12 (io), B1 PE4 (io), B2 PE2 (io), B3 PB9 (io), B4 PB7 (io), B5 PB6 (io), B6 PD6 (io), B7 PD4 (io), B8 PD3 (io), B9 PD1 (io), B10 PC12 (io), B11 PC10 (io), B12 PA11 (io), C1 PC13-RTC_AF1-WKUP2 (io), C2 PE5 (io), C3 PE0 (io), C5 PB5 (io), C8 PD2 (io), C9 PD0 (io), C10 PC11 (io), C11 PH2 (io), C12 PA10 (io), D1 PC14-OSC32_IN (io), D2 PE6-WKUP3 (io), D10 PA9 (io), D11 PA8 (io), D12 PC9 (io), E1 PC15-OSC32_OUT (io), E10 PC8 (io), E11 PC7 (io), E12 PC6 (io), F1 PH0-OSC_IN (io), G1 PH1-OSC_OUT (io), H1 PC0 (io), H2 NRST (io), H10 PD15 (io), H11 PD14 (io), H12 PD13 (io), J2 PC1 (io), J3 PC2 (io), J10 PD12 (io), J11 PD11 (io), J12 PD10 (io), K2 PC3 (io), K3 PA2 (io), K4 PA5 (io), K5 PC4 (io), K8 PD9 (io), K9 PD8 (io), K10 PB15 (io), K11 PB14 (io), K12 PB13 (io), L2 PA0-WKUP1 (io), L3 PA3 (io), L4 PA6 (io), L5 PC5 (io), L6 PB2 (io), L7 PE8 (io), L8 PE10 (io), L9 PE12 (io), L10 PB10 (io), L11 PB11 (io), L12 PB12 (io), M2 PA1 (io), M3 PA4 (io), M4 PA7 (io), M5 PB0 (io), M6 PB1 (io), M7 PE7 (io), M8 PE9 (io), M9 PE11 (io), M10 PE13 (io), M11 PE14 (io), M12 PE15 (io)
part B pins: C4 VDD_3 (power), D3 VSS_3 (power), E2 VLCD (power), E3 VSS_4 (power), F2 VSS_5 (power), F11 VSS_2 (power), F12 VSS_1 (power), G2 VDD_5 (power), G11 VDD_2 (power), G12 VDD_1 (power), H3 VDD_4 (power), J1 VSSA (power), K1 VREF- (power), L1 VREF+ (power), M1 VDDA (power)

## STM32L152VBH6D
designator U?
STM32L ARM-based EnergyLite 32-bit MCU, LCD, 128 kB Flash, 16 kB Internal RAM, 1.65 to 3.6VDD, -40 to +85癈 Temperature, 100-pin UFBGA, Tray; 封装库来自淘宝卖家ID：黄晶宝石: 其他店铺购入均为盗版假冒封装库,请立即申请退款，本店现金奖励100~1000元; DatasheetVersion: rev6, Jan-2012; PackageVersion: 2011; PackageReference: UFBGA100; PackageDescription: 100-Ball Ultra Fine-Pitch Ball Grid Array, 7 x 7 mm Body, 0.5 mm Pitch; ComponentLink1Description: Manufacturer URL; ComponentLink1URL: http://www.st.com/; ComponentLink2Description: STM32L151/152 Datasheet; ComponentLink2URL: http://www.st.com/internet/com/TECHNICAL_RESOURCES/TECHNICAL_LITERATURE/DATASHEET/CD00277537.pdf; ComponentLink3Description: STM32 L1 Family Web Page; ComponentLink3URL: http://www.st.com/internet/mcu/subclass/1376.jsp
footprint UFBGA100 (BGA, 100-Leads, Body 7x7mm, Pitch 0.5mm)
part A pins: A1 PE3 (io), A2 PE1 (io), A3 PB8 (io), A4 BOOT0 (in), A5 PD7 (io), A6 PD5 (io), A7 PB4 (io), A8 PB3 (io), A9 PA15 (io), A10 PA14 (io), A11 PA13 (io), A12 PA12 (io), B1 PE4 (io), B2 PE2 (io), B3 PB9 (io), B4 PB7 (io), B5 PB6 (io), B6 PD6 (io), B7 PD4 (io), B8 PD3 (io), B9 PD1 (io), B10 PC12 (io), B11 PC10 (io), B12 PA11 (io), C1 PC13-RTC_AF1-WKUP2 (io), C2 PE5 (io), C3 PE0 (io), C5 PB5 (io), C8 PD2 (io), C9 PD0 (io), C10 PC11 (io), C11 PH2 (io), C12 PA10 (io), D1 PC14-OSC32_IN (io), D2 PE6-WKUP3 (io), D10 PA9 (io), D11 PA8 (io), D12 PC9 (io), E1 PC15-OSC32_OUT (io), E10 PC8 (io), E11 PC7 (io), E12 PC6 (io), F1 PH0-OSC_IN (io), G1 PH1-OSC_OUT (io), H1 PC0 (io), H2 NRST (io), H10 PD15 (io), H11 PD14 (io), H12 PD13 (io), J2 PC1 (io), J3 PC2 (io), J10 PD12 (io), J11 PD11 (io), J12 PD10 (io), K2 PC3 (io), K3 PA2 (io), K4 PA5 (io), K5 PC4 (io), K8 PD9 (io), K9 PD8 (io), K10 PB15 (io), K11 PB14 (io), K12 PB13 (io), L2 PA0-WKUP1 (io), L3 PA3 (io), L4 PA6 (io), L5 PC5 (io), L6 PB2 (io), L7 PE8 (io), L8 PE10 (io), L9 PE12 (io), L10 PB10 (io), L11 PB11 (io), L12 PB12 (io), M2 PA1 (io), M3 PA4 (io), M4 PA7 (io), M5 PB0 (io), M6 PB1 (io), M7 PE7 (io), M8 PE9 (io), M9 PE11 (io), M10 PE13 (io), M11 PE14 (io), M12 PE15 (io)
part B pins: C4 VDD_3 (power), D3 VSS_3 (power), E2 VLCD (power), E3 VSS_4 (power), F2 VSS_5 (power), F11 VSS_2 (power), F12 VSS_1 (power), G2 VDD_5 (power), G11 VDD_2 (power), G12 VDD_1 (power), H3 VDD_4 (power), J1 VSSA (power), K1 VREF- (power), L1 VREF+ (power), M1 VDDA (power)

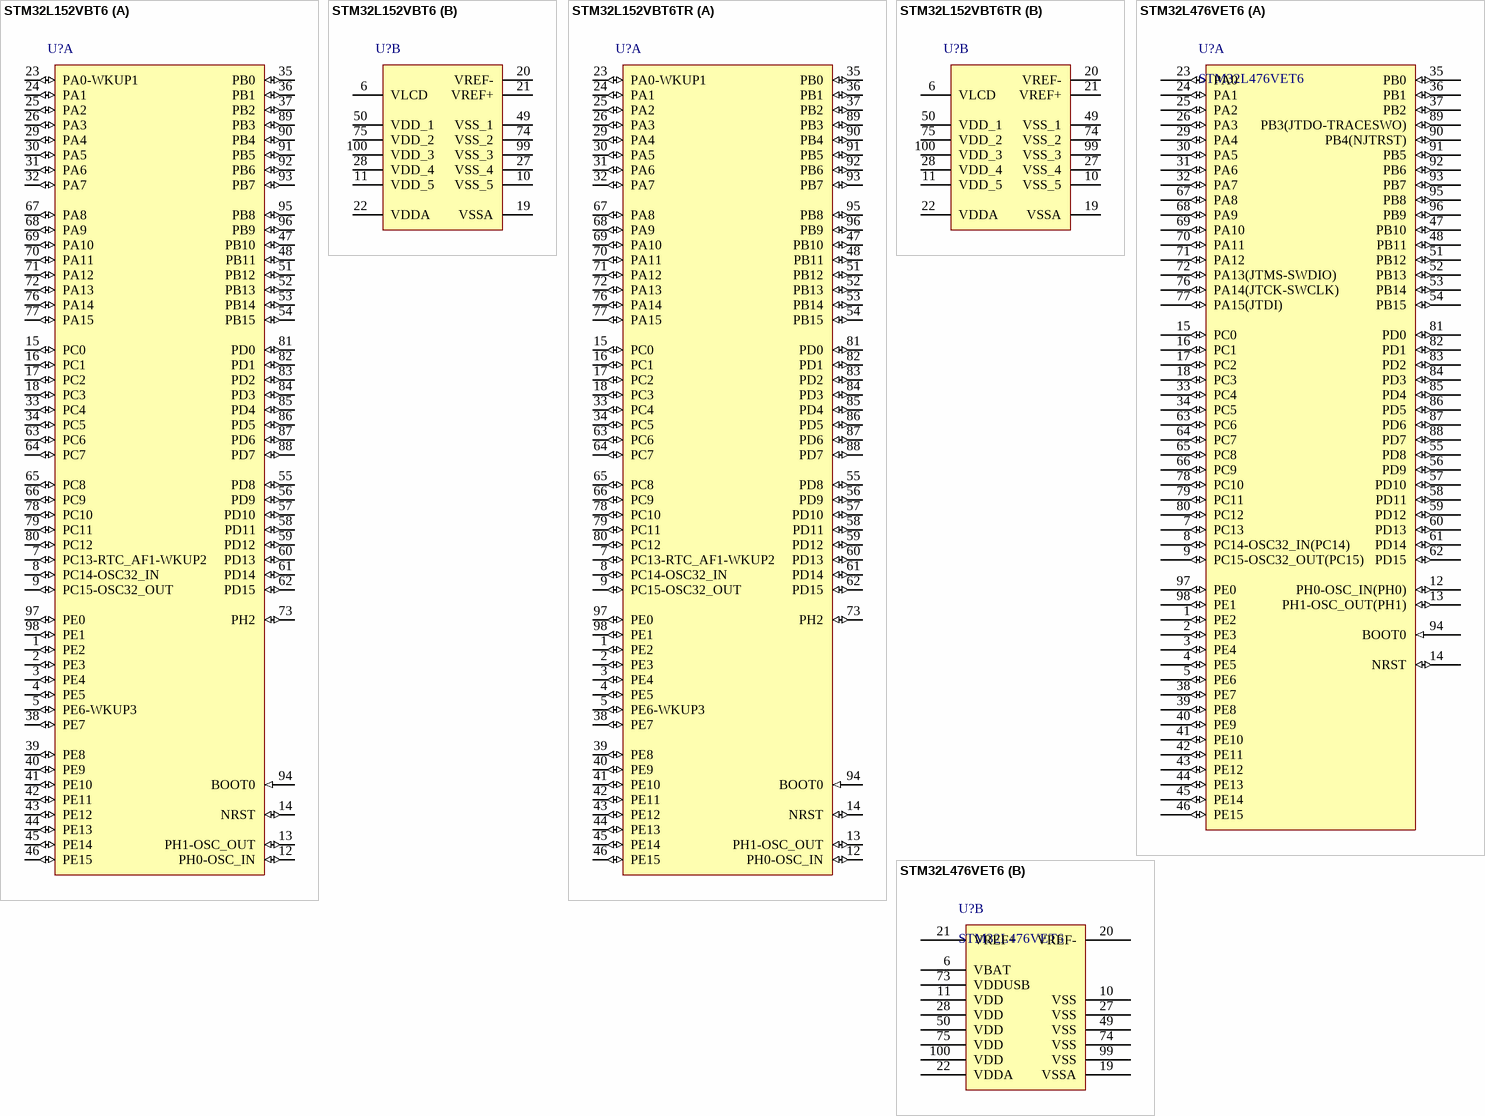
[diagram p5: symbols STM32L152VBT6 to STM32L476VET6]

## STM32L152VBT6
designator U?
STM32L ARM-based EnergyLite 32-bit MCU, LCD, 128 kB Flash, 16 kB Internal RAM, -40 to +85癈 Temperature, 100-pin LQFP, Tray; 封装库来自淘宝卖家ID：黄晶宝石: 其他店铺购入均为盗版假冒封装库,请立即申请退款，本店现金奖励100~1000元; DatasheetVersion: rev6, Jan-2012; PackageVersion: 2012; PackageReference: LQFP100; PackageDescription: 100-Pin Low Profile Quad Flat Package, 14x14 mm Body, 0.5 mm Pitch; ComponentLink1Description: Manufacturer URL; ComponentLink1URL: http://www.st.com/; ComponentLink2Description: STM32L151/152 Datasheet; ComponentLink2URL: http://www.st.com/internet/com/TECHNICAL_RESOURCES/TECHNICAL_LITERATURE/DATASHEET/CD00277537.pdf; ComponentLink3Description: STM32 L1 Family Web Page; ComponentLink3URL: http://www.st.com/internet/mcu/subclass/1376.jsp
footprint LQFP100_V (Thin QFP, 100-Leads, Body 14x14mm, Pitch 0.5mm, ST Recommended)
footprint LQFP100_N (Thin QFP, 100-Leads, Body 14x14mm, Pitch 0.5mm, IPC Medium Density)
footprint LQFP100_L (Thin QFP, 100-Leads, Body 14x14mm, Pitch 0.5mm, IPC High Density)
footprint LQFP100_M (Thin QFP, 100-Leads, Body 14x14mm, Pitch 0.5mm, IPC Low Density)
part A pins: 1 PE2 (io), 2 PE3 (io), 3 PE4 (io), 4 PE5 (io), 5 PE6-WKUP3 (io), 7 PC13-RTC_AF1-WKUP2 (io), 8 PC14-OSC32_IN (io), 9 PC15-OSC32_OUT (io), 12 PH0-OSC_IN (io), 13 PH1-OSC_OUT (io), 14 NRST (io), 15 PC0 (io), 16 PC1 (io), 17 PC2 (io), 18 PC3 (io), 23 PA0-WKUP1 (io), 24 PA1 (io), 25 PA2 (io), 26 PA3 (io), 29 PA4 (io), 30 PA5 (io), 31 PA6 (io), 32 PA7 (io), 33 PC4 (io), 34 PC5 (io), 35 PB0 (io), 36 PB1 (io), 37 PB2 (io), 38 PE7 (io), 39 PE8 (io), 40 PE9 (io), 41 PE10 (io), 42 PE11 (io), 43 PE12 (io), 44 PE13 (io), 45 PE14 (io), 46 PE15 (io), 47 PB10 (io), 48 PB11 (io), 51 PB12 (io), 52 PB13 (io), 53 PB14 (io), 54 PB15 (io), 55 PD8 (io), 56 PD9 (io), 57 PD10 (io), 58 PD11 (io), 59 PD12 (io), 60 PD13 (io), 61 PD14 (io), 62 PD15 (io), 63 PC6 (io), 64 PC7 (io), 65 PC8 (io), 66 PC9 (io), 67 PA8 (io), 68 PA9 (io), 69 PA10 (io), 70 PA11 (io), 71 PA12 (io), 72 PA13 (io), 73 PH2 (io), 76 PA14 (io), 77 PA15 (io), 78 PC10 (io), 79 PC11 (io), 80 PC12 (io), 81 PD0 (io), 82 PD1 (io), 83 PD2 (io), 84 PD3 (io), 85 PD4 (io), 86 PD5 (io), 87 PD6 (io), 88 PD7 (io), 89 PB3 (io), 90 PB4 (io), 91 PB5 (io), 92 PB6 (io), 93 PB7 (io), 94 BOOT0 (in), 95 PB8 (io), 96 PB9 (io), 97 PE0 (io), 98 PE1 (io)
part B pins: 6 VLCD (power), 10 VSS_5 (power), 11 VDD_5 (power), 19 VSSA (power), 20 VREF- (power), 21 VREF+ (power), 22 VDDA (power), 27 VSS_4 (power), 28 VDD_4 (power), 49 VSS_1 (power), 50 VDD_1 (power), 74 VSS_2 (power), 75 VDD_2 (power), 99 VSS_3 (power), 100 VDD_3 (power)

## STM32L152VBT6TR
designator U?
STM32L ARM-based EnergyLite 32-bit MCU, LCD, 128 kB Flash, 16 kB Internal RAM, -40 to +85癈 Temperature, 100-pin LQFP, Tape and Reel; 封装库来自淘宝卖家ID：黄晶宝石: 其他店铺购入均为盗版假冒封装库,请立即申请退款，本店现金奖励100~1000元; DatasheetVersion: rev6, Jan-2012; PackageVersion: 2012; PackageReference: LQFP100; PackageDescription: 100-Pin Low Profile Quad Flat Package, 14x14 mm Body, 0.5 mm Pitch; ComponentLink1Description: Manufacturer URL; ComponentLink1URL: http://www.st.com/; ComponentLink2Description: STM32L151/152 Datasheet; ComponentLink2URL: http://www.st.com/internet/com/TECHNICAL_RESOURCES/TECHNICAL_LITERATURE/DATASHEET/CD00277537.pdf; ComponentLink3Description: STM32 L1 Family Web Page; ComponentLink3URL: http://www.st.com/internet/mcu/subclass/1376.jsp
footprint LQFP100_V (Thin QFP, 100-Leads, Body 14x14mm, Pitch 0.5mm, ST Recommended)
footprint LQFP100_N (Thin QFP, 100-Leads, Body 14x14mm, Pitch 0.5mm, IPC Medium Density)
footprint LQFP100_L (Thin QFP, 100-Leads, Body 14x14mm, Pitch 0.5mm, IPC High Density)
footprint LQFP100_M (Thin QFP, 100-Leads, Body 14x14mm, Pitch 0.5mm, IPC Low Density)
part A pins: 1 PE2 (io), 2 PE3 (io), 3 PE4 (io), 4 PE5 (io), 5 PE6-WKUP3 (io), 7 PC13-RTC_AF1-WKUP2 (io), 8 PC14-OSC32_IN (io), 9 PC15-OSC32_OUT (io), 12 PH0-OSC_IN (io), 13 PH1-OSC_OUT (io), 14 NRST (io), 15 PC0 (io), 16 PC1 (io), 17 PC2 (io), 18 PC3 (io), 23 PA0-WKUP1 (io), 24 PA1 (io), 25 PA2 (io), 26 PA3 (io), 29 PA4 (io), 30 PA5 (io), 31 PA6 (io), 32 PA7 (io), 33 PC4 (io), 34 PC5 (io), 35 PB0 (io), 36 PB1 (io), 37 PB2 (io), 38 PE7 (io), 39 PE8 (io), 40 PE9 (io), 41 PE10 (io), 42 PE11 (io), 43 PE12 (io), 44 PE13 (io), 45 PE14 (io), 46 PE15 (io), 47 PB10 (io), 48 PB11 (io), 51 PB12 (io), 52 PB13 (io), 53 PB14 (io), 54 PB15 (io), 55 PD8 (io), 56 PD9 (io), 57 PD10 (io), 58 PD11 (io), 59 PD12 (io), 60 PD13 (io), 61 PD14 (io), 62 PD15 (io), 63 PC6 (io), 64 PC7 (io), 65 PC8 (io), 66 PC9 (io), 67 PA8 (io), 68 PA9 (io), 69 PA10 (io), 70 PA11 (io), 71 PA12 (io), 72 PA13 (io), 73 PH2 (io), 76 PA14 (io), 77 PA15 (io), 78 PC10 (io), 79 PC11 (io), 80 PC12 (io), 81 PD0 (io), 82 PD1 (io), 83 PD2 (io), 84 PD3 (io), 85 PD4 (io), 86 PD5 (io), 87 PD6 (io), 88 PD7 (io), 89 PB3 (io), 90 PB4 (io), 91 PB5 (io), 92 PB6 (io), 93 PB7 (io), 94 BOOT0 (in), 95 PB8 (io), 96 PB9 (io), 97 PE0 (io), 98 PE1 (io)
part B pins: 6 VLCD (power), 10 VSS_5 (power), 11 VDD_5 (power), 19 VSSA (power), 20 VREF- (power), 21 VREF+ (power), 22 VDDA (power), 27 VSS_4 (power), 28 VDD_4 (power), 49 VSS_1 (power), 50 VDD_1 (power), 74 VSS_2 (power), 75 VDD_2 (power), 99 VSS_3 (power), 100 VDD_3 (power)

## STM32L476VET6
designator U?
Ultra-Low-Power ARM Cortex-M4 32-bit MCU+FPU, 512 KB Flash, 128 KB Internal RAM, 82 I/Os, 100-Pin LQFP, -40 to 85 degC, Tray; Manufacturer: STMicroelectronics; Operating Frequency(F) (Processor speed) (MHz): 80; Internal RAM Size (kB): 128; FLASH Size (Prog) (kB): 512; D/A Converter: 2; Supply Voltage(Vcc) min (V): 1.71; I/Os (High Current): 82; 封装库来自淘宝卖家ID：黄晶宝石: 其他店铺购入均为盗版假冒封装库,请立即申请退款，本店现金奖励100~1000元; DatasheetVersion: Rev. 4; Core: ARM Cortex-M4; Mounting Technology: Surface Mount; Package Reference: LQFP100; Package Description: 100-Pin Low Profile Quad Flat Package, Body 14 x 14 mm, Pitch 0.5 mm; PartNumber: STM32L476VET6; Packing: Tray; ComponentLink1URL: http://www.st.com/; ComponentLink2URL: http://www.st.com/st-web-ui/static/active/en/resource/technical/document/datasheet/DM00108832.pdf; ComponentLink1Description: Manufacturer URL; ComponentLink2Description: Datasheet
footprint STM-LQFP100_L (Thin QFP, 100-Leads, Body 14x14mm, Pitch 0.5mm, IPC High Density)
footprint STM-LQFP100_M (Thin QFP, 100-Leads, Body 14x14mm, Pitch 0.5mm, IPC Low Density)
footprint STM-LQFP100_N (Thin QFP, 100-Leads, Body 14x14mm, Pitch 0.5mm, IPC Medium Density)
part A pins: 1 PE2 (io) "PE2/TRACECK,TIM3_ETR,TSC_G7_IO1,LCD_SEG38,FMC_A23,SAI1_MCLK_A,EVENTOUT", 2 PE3 (io) "PE3/TRACED0,TIM3_CH1,TSC_G7_IO2,LCD_SEG39,FMC_A19,SAI1_SD_B,EVENTOUT", 3 PE4 (io) "PE4/TRACED1,TIM3_CH2,DFSDM_DATIN3,TSC_G7_IO3,FMC_A20,SAI1_FS_A,EVENTOUT", 4 PE5 (io) "PE5/TRACED2,TIM3_CH3,DFSDM_CKIN3,TSC_G7_IO4,FMC_A21,SAI1_SCK_A,EVENTOUT", 5 PE6 (io) "PE6/TRACED3,TIM3_CH4,FMC_A22,SAI1_SD_A,EVENTOUT/RTC_TAMP3/WKUP3", 7 PC13 (io) "PC13/EVENTOUT/RTC_TAMP1/RTC_TS/RTC_OUT/WKUP2", 8 PC14-OSC32_IN(PC14) (io) "PC14-OSC32_IN(PC14)/EVENTOUT/OSC32_IN", 9 PC15-OSC32_OUT(PC15) (io) "PC15-OSC32_OUT(PC15)/EVENTOUT/OSC32_OUT", 12 PH0-OSC_IN(PH0) (io) "PH0-OSC_IN(PH0)/EVENTOUT/OSC_IN", 13 PH1-OSC_OUT(PH1) (io) "PH1-OSC_OUT(PH1)/EVENTOUT/OSC_OUT", 14 NRST (io), 15 PC0 (io) "PC0/LPTIM1_IN1,I2C3_SCL,DFSDM_DATIN4,LPUART1_RX,LCD_SEG18,LPTIM2_IN1,EVENTOUT/ADC123_IN1", 16 PC1 (io) "PC1/LPTIM1_OUT,I2C3_SDA,DFSDM_CKIN4,LPUART1_TX,LCD_SEG19,EVENTOUT/ADC123_IN2", 17 PC2 (io) "PC2/LPTIM1_IN2,SPI2_MISO,DFSDM_CKOUT,LCD_SEG20,EVENTOUT/ADC123_IN3", 18 PC3 (io) "PC3/LPTIM1_ETR,SPI2_MOSI,LCD_VLCD,SAI1_SD_A,LPTIM2_ETR,EVENTOUT/ADC123_IN4", 23 PA0 (io) "PA0/TIM2_CH1,TIM5_CH1,TIM8_ETR,USART2_CTS,UART4_TX,SAI1_EXTCLK,TIM2_ETR,EVENTOUT/OPAMP1_VINP,ADC12_IN5,RTC_TAMP2/WKUP1", 24 PA1 (io) "PA1/TIM2_CH2,TIM5_CH2,USART2_RTS_DE,UART4_RX,LCD_SEG0,TIM15_CH1N,EVENTOUT/OPAMP1_VINM,ADC12_IN6", 25 PA2 (io) "PA2/TIM2_CH3,TIM5_CH3,USART2_TX,LCD_SEG1,SAI2_EXTCLK,TIM15_CH1,EVENTOUT/ADC12_IN7,WKUP4/LSCO", 26 PA3 (io) "PA3/TIM2_CH4,TIM5_CH4,USART2_RX,LCD_SEG2,TIM15_CH2,EVENTOUT/OPAMP1_VOUT,ADC12_IN8", 29 PA4 (io) "PA4/SPI1_NSS,SPI3_NSS,USART2_CK,SAI1_FS_B,LPTIM2_OUT,EVENTOUT/ADC12_IN9,DAC1_OUT1", 30 PA5 (io) "PA5/TIM2_CH1,TIM2_ETR,TIM8_CH1N,SPI1_SCK,LPTIM2_ETR,EVENTOUT/ADC12_IN10,DAC1_OUT2", 31 PA6 (io) "PA6/TIM1_BKIN,TIM3_CH1,TIM8_BKIN,SPI1_MISO,USART3_CTS,QUADSPI_BK1_IO3,LCD_SEG3,TIM1_BKIN_COMP2,TIM8_BKIN_COMP2,TIM16_CH1,EVENTOUT/OPAMP2_VINP,ADC12_IN11", 32 PA7 (io) "PA7/TIM1_CH1N,TIM3_CH2,TIM8_CH1N,SPI1_MOSI,QUADSPI_BK1_IO2,LCD_SEG4,TIM17_CH1,EVENTOUT/OPAMP2_VINM,ADC12_IN12", 33 PC4 (io) "PC4/USART3_TX,LCD_SEG22,EVENTOUT/COMP1_INM,ADC12_IN13", 34 PC5 (io) "PC5/USART3_RX,LCD_SEG23,EVENTOUT/COMP1_INP,ADC12_IN14,WKUP5", 35 PB0 (io) "PB0/TIM1_CH2N,TIM3_CH3,TIM8_CH2N,USART3_CK,QUADSPI_BK1_IO1,LCD_SEG5,COMP1_OUT,EVENTOUT/OPAMP2_VOUT,ADC12_IN15", 36 PB1 (io) "PB1/TIM1_CH3N,TIM3_CH4,TIM8_CH3N,DFSDM_DATIN0,USART3_RTS_DE,QUADSPI_BK1_IO0,LCD_SEG6,LPTIM2_IN1,EVENTOUT/COMP1_INM,ADC12_IN16", 37 PB2 (io) "PB2/RTC_OUT,LPTIM1_OUT,I2C3_SMBA,DFSDM_CKIN0,EVENTOUT/COMP1_INP", 38 PE7 (io) "PE7/TIM1_ETR,DFSDM_DATIN2,FMC_D4,SAI1_SD_B,EVENTOUT", 39 PE8 (io) "PE8/TIM1_CH1N,DFSDM_CKIN2,FMC_D5,SAI1_SCK_B,EVENTOUT", 40 PE9 (io) "PE9/TIM1_CH1,DFSDM_CKOUT,FMC_D6,SAI1_FS_B,EVENTOUT", 41 PE10 (io) "PE10/TIM1_CH2N,DFSDM_DATIN4,TSC_G5_IO1,QUADSPI_CLK,FMC_D7,SAI1_MCLK_B,EVENTOUT", 42 PE11 (io) "PE11/TIM1_CH2,DFSDM_CKIN4,TSC_G5_IO2,QUADSPI_NCS,FMC_D8,EVENTOUT", 43 PE12 (io) "PE12/TIM1_CH3N,SPI1_NSS,DFSDM_DATIN5,TSC_G5_IO3,QUADSPI_BK1_IO0,FMC_D9,EVENTOUT", 44 PE13 (io) "PE13/TIM1_CH3,SPI1_SCK,DFSDM_CKIN5,TSC_G5_IO4,QUADSPI_BK1_IO1,FMC_D10,EVENTOUT", 45 PE14 (io) "PE14/TIM1_CH4,TIM1_BKIN2,TIM1_BKIN2_COMP2,SPI1_MISO,QUADSPI_BK1_IO2,FMC_D11,EVENTOUT", 46 PE15 (io) "PE15/TIM1_BKIN,TIM1_BKIN_COMP1,SPI1_MOSI,QUADSPI_BK1_IO3,FMC_D12,EVENTOUT", 47 PB10 (io) "PB10/TIM2_CH3,I2C2_SCL,SPI2_SCK,DFSDM_DATIN7,USART3_TX,LPUART1_RX,QUADSPI_CLK,LCD_SEG10,COMP1_OUT,SAI1_SCK_A,EVENTOUT", 48 PB11 (io) "PB11/TIM2_CH4,I2C2_SDA,DFSDM_CKIN7,USART3_RX,LPUART1_TX,QUADSPI_NCS,LCD_SEG11,COMP2_OUT,EVENTOUT", 51 PB12 (io) "PB12/TIM1_BKIN,TIM1_BKIN_COMP2,I2C2_SMBA,SPI2_NSS,DFSDM_DATIN1,USART3_CK,LPUART1_RTS_DE,TSC_G1_IO1,LCD_SEG12,SWPMI1_IO,SAI2_FS_A,TIM15_BKIN,EVENTOUT", 52 PB13 (io) "PB13/TIM1_CH1N,I2C2_SCL,SPI2_SCK,DFSDM_CKIN1,USART3_CTS,LPUART1_CTS,TSC_G1_IO2,LCD_SEG13,SWPMI1_TX,SAI2_SCK_A,TIM15_CH1N,EVENTOUT", 53 PB14 (io) "PB14/TIM1_CH2N,TIM8_CH2N,I2C2_SDA,SPI2_MISO,DFSDM_DATIN2,USART3_RTS_DE,TSC_G1_IO3,LCD_SEG14,SWPMI1_RX,SAI2_MCLK_A,TIM15_CH1,EVENTOUT", 54 PB15 (io) "PB15/RTC_REFIN,TIM1_CH3N,TIM8_CH3N,SPI2_MOSI,DFSDM_CKIN2,TSC_G1_IO4,LCD_SEG15,SWPMI1_SUSPEND,SAI2_SD_A,TIM15_CH2,EVENTOUT", 55 PD8 (io) "PD8/USART3_TX,LCD_SEG28,FMC_D13,EVENTOUT", 56 PD9 (io) "PD9/USART3_RX,LCD_SEG29,FMC_D14,SAI2_MCLK_A,EVENTOUT", 57 PD10 (io) "PD10/USART3_CK,TSC_G6_IO1,LCD_SEG30,FMC_D15,SAI2_SCK_A,EVENTOUT", 58 PD11 (io) "PD11/USART3_CTS,TSC_G6_IO2,LCD_SEG31,FMC_A16,SAI2_SD_A,LPTIM2_ETR,EVENTOUT", 59 PD12 (io) "PD12/TIM4_CH1,USART3_RTS_DE,TSC_G6_IO3,LCD_SEG32,FMC_A17,SAI2_FS_A,LPTIM2_IN1,EVENTOUT", 60 PD13 (io) "PD13/TIM4_CH2,TSC_G6_IO4,LCD_SEG33,FMC_A18,LPTIM2_OUT,EVENTOUT", 61 PD14 (io) "PD14/TIM4_CH3,LCD_SEG34,FMC_D0,EVENTOUT", 62 PD15 (io) "PD15/TIM4_CH4,LCD_SEG35,FMC_D1,EVENTOUT", 63 PC6 (io) "PC6/TIM3_CH1,TIM8_CH1,DFSDM_CKIN3,TSC_G4_IO1,LCD_SEG24,SDMMC1_D6,SAI2_MCLK_A,EVENTOUT", 64 PC7 (io) "PC7/TIM3_CH2,TIM8_CH2,DFSDM_DATIN3,TSC_G4_IO2,LCD_SEG25,SDMMC1_D7,SAI2_MCLK_B,EVENTOUT", 65 PC8 (io) "PC8/TIM3_CH3,TIM8_CH3,TSC_G4_IO3,LCD_SEG26,SDMMC1_D0,EVENTOUT", 66 PC9 (io) "PC9/TIM8_BKIN2,TIM3_CH4,TIM8_CH4,TSC_G4_IO4,OTG_FS_NOE,LCD_SEG27,SDMMC1_D1,SAI2_EXTCLK,TIM8_BKIN2_COMP1,EVENTOUT", 67 PA8 (io) "PA8/MCO,TIM1_CH1,USART1_CK,OTG_FS_SOF,LCD_COM0,LPTIM2_OUT,EVENTOUT", 68 PA9 (io) "PA9/TIM1_CH2,USART1_TX,LCD_COM1,TIM15_BKIN,EVENTOUT/OTG_FS_VBUS", 69 PA10 (io) "PA10/TIM1_CH3,USART1_RX,OTG_FS_ID,LCD_COM2,TIM17_BKIN,EVENTOUT", 70 PA11 (io) "PA11/TIM1_CH4,TIM1_BKIN2,USART1_CTS,CAN1_RX,OTG_FS_DM,TIM1_BKIN2_COMP1,EVENTOUT", 71 PA12 (io) "PA12/TIM1_ETR,USART1_RTS_DE,CAN1_TX,OTG_FS_DP,EVENTOUT", 72 PA13(JTMS-SWDIO) (io) "PA13(JTMS-SWDIO)/JTMS-SWDIO,IR_OUT,OTG_FS_NOE,EVENTOUT", 76 PA14(JTCK-SWCLK) (io) "PA14(JTCK-SWCLK)/JTCK-SWCLK,EVENTOUT", 77 PA15(JTDI) (io) "PA15(JTDI)/JTDI,TIM2_CH1,TIM2_ETR,SPI1_NSS,SPI3_NSS,UART4_RTS_DE,TSC_G3_IO1,LCD_SEG17,SAI2_FS_B,EVENTOUT", 78 PC10 (io) "PC10/SPI3_SCK,USART3_TX,UART4_TX,TSC_G3_IO2,LCD_COM4/LCD_SEG28/LCD_SEG40,SDMMC1_D2,SAI2_SCK_B,EVENTOUT", 79 PC11 (io) "PC11/SPI3_MISO,USART3_RX,UART4_RX,TSC_G3_IO3,LCD_COM5/LCD_SEG29/LCD_SEG41,SDMMC1_D3,SAI2_MCLK_B,EVENTOUT", 80 PC12 (io) "PC12/SPI3_MOSI,USART3_CK,UART5_TX,TSC_G3_IO4,LCD_COM6/LCD_SEG30/LCD_SEG42,SDMMC1_CK,SAI2_SD_B,EVENTOUT", 81 PD0 (io) "PD0/SPI2_NSS,DFSDM_DATIN7,CAN1_RX,FMC_D2,EVENTOUT", 82 PD1 (io) "PD1/SPI2_SCK,DFSDM_CKIN7,CAN1_TX,FMC_D3,EVENTOUT", 83 PD2 (io) "PD2/TIM3_ETR,USART3_RTS_DE,UART5_RX,TSC_SYNC,LCD_COM7/LCD_SEG31/LCD_SEG43,SDMMC1_CMD,EVENTOUT", 84 PD3 (io) "PD3/SPI2_MISO,DFSDM_DATIN0,USART2_CTS,FMC_CLK,EVENTOUT", 85 PD4 (io) "PD4/SPI2_MOSI,DFSDM_CKIN0,USART2_RTS_DE,FMC_NOE,EVENTOUT", 86 PD5 (io) "PD5/USART2_TX,FMC_NWE,EVENTOUT", 87 PD6 (io) "PD6/DFSDM_DATIN1,USART2_RX,FMC_NWAIT,SAI1_SD_A,EVENTOUT", 88 PD7 (io) "PD7/DFSDM_CKIN1,USART2_CK,FMC_NE1,EVENTOUT", 89 PB3(JTDO-TRACESWO) (io) "PB3(JTDO-TRACESWO)/JTDO-TRACESWO,TIM2_CH2,SPI1_SCK,SPI3_SCK,USART1_RTS_DE,LCD_SEG7,SAI1_SCK_B,EVENTOUT/COMP2_INM", 90 PB4(NJTRST) (io) "PB4(NJTRST)/NJTRST,TIM3_CH1,SPI1_MISO,SPI3_MISO,USART1_CTS,UART5_RTS_DE,TSC_G2_IO1,LCD_SEG8,SAI1_MCLK_B,TIM17_BKIN,EVENTOUT/COMP2_INP", 91 PB5 (io) "PB5/LPTIM1_IN1,TIM3_CH2,I2C1_SMBA,SPI1_MOSI,SPI3_MOSI,USART1_CK,UART5_CTS,TSC_G2_IO2,LCD_SEG9,COMP2_OUT,SAI1_SD_B,TIM16_BKIN,EVENTOUT", 92 PB6 (io) "PB6/LPTIM1_ETR,TIM4_CH1,TIM8_BKIN2,I2C1_SCL,DFSDM_DATIN5,USART1_TX,TSC_G2_IO3,TIM8_BKIN2_COMP2,SAI1_FS_B,TIM16_CH1N,EVENTOUT/COMP2_INP", 93 PB7 (io) "PB7/LPTIM1_IN2,TIM4_CH2,TIM8_BKIN,I2C1_SDA,DFSDM_CKIN5,USART1_RX,UART4_CTS,TSC_G2_IO4,LCD_SEG21,FMC_NL,TIM8_BKIN_COMP1,TIM17_CH1N,EVENTOUT/COMP2_INM,PVD_IN", 94 BOOT0 (in), 95 PB8 (io) "PB8/TIM4_CH3,I2C1_SCL,DFSDM_DATIN6,CAN1_RX,LCD_SEG16,SDMMC1_D4,SAI1_MCLK_A,TIM16_CH1,EVENTOUT", 96 PB9 (io) "PB9/IR_OUT,TIM4_CH4,I2C1_SDA,SPI2_NSS,DFSDM_CKIN6,CAN1_TX,LCD_COM3,SDMMC1_D5,SAI1_FS_A,TIM17_CH1,EVENTOUT", 97 PE0 (io) "PE0/TIM4_ETR,LCD_SEG36,FMC_NBL0,TIM16_CH1,EVENTOUT", 98 PE1 (io) "PE1/LCD_SEG37,FMC_NBL1,TIM17_CH1,EVENTOUT"
part B pins: 6 VBAT (power), 10 VSS (power), 11 VDD (power), 19 VSSA (power), 20 VREF- (power), 21 VREF+ (power) "VREF+/VREFBUF_OUT", 22 VDDA (power), 27 VSS (power), 28 VDD (power), 49 VSS (power), 50 VDD (power), 73 VDDUSB (power), 74 VSS (power), 75 VDD (power), 99 VSS (power), 100 VDD (power)

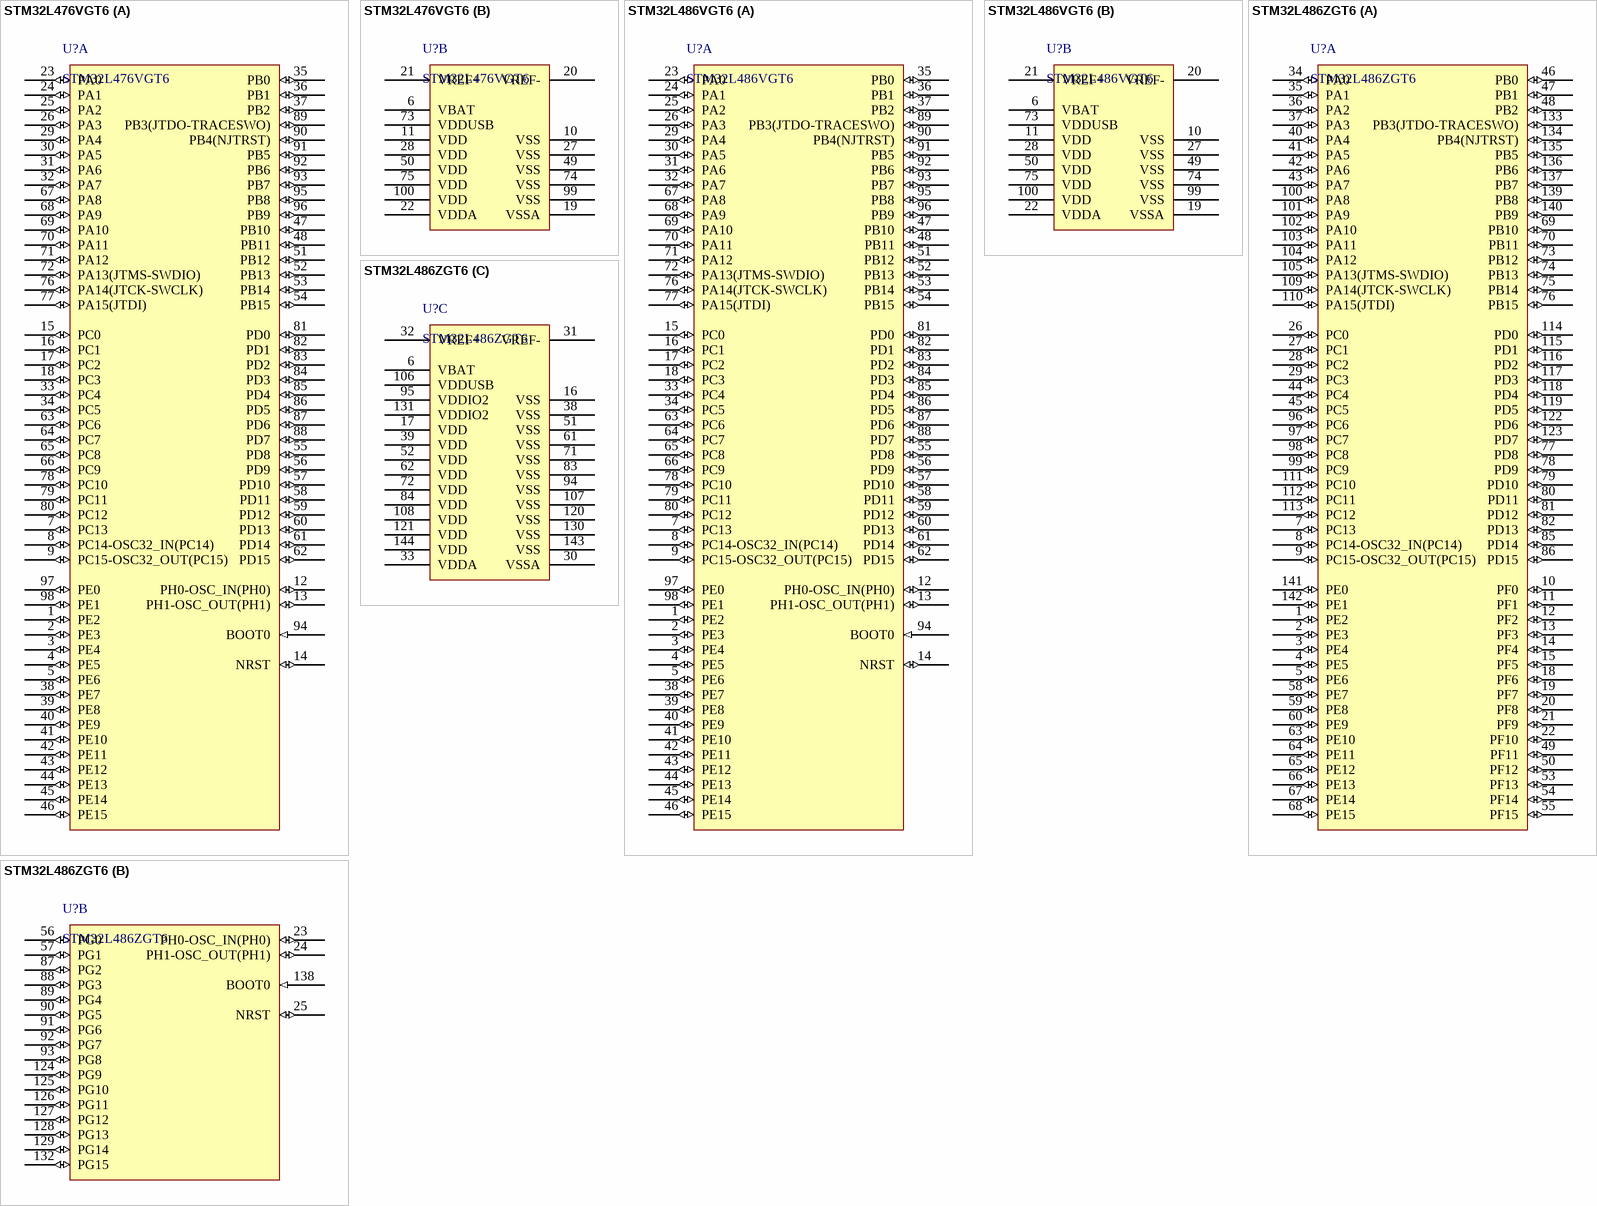
[diagram p6: symbols STM32L476VGT6 to STM32L486ZGT6]

## STM32L476VGT6
designator U?
Ultra-Low-Power ARM Cortex-M4 32-bit MCU+FPU, 1024 KB Flash, 128 KB Internal RAM, 82 I/Os, 100-Pin LQFP, -40 to 85 degC, Tray; Manufacturer: STMicroelectronics; I/Os (High Current): 82; Supply Voltage(Vcc) min (V): 1.71; Internal RAM Size (kB): 128; D/A Converter: 2; Operating Frequency(F) (Processor speed) (MHz): 80; FLASH Size (Prog) (kB): 1024; 封装库来自淘宝卖家ID：黄晶宝石: 其他店铺购入均为盗版假冒封装库,请立即申请退款，本店现金奖励100~1000元; Packing: Tray; Package Description: 100-Pin Low Profile Quad Flat Package, Body 14 x 14 mm, Pitch 0.5 mm; Package Reference: LQFP100; ComponentLink1URL: http://www.st.com/; DatasheetVersion: Rev. 4; PartNumber: STM32L476VGT6; Core: ARM Cortex-M4; Mounting Technology: Surface Mount; ComponentLink1Description: Manufacturer URL; ComponentLink2URL: http://www.st.com/st-web-ui/static/active/en/resource/technical/document/datasheet/DM00108832.pdf; ComponentLink2Description: Datasheet
footprint STM-LQFP100_L (Thin QFP, 100-Leads, Body 14x14mm, Pitch 0.5mm, IPC High Density)
footprint STM-LQFP100_M (Thin QFP, 100-Leads, Body 14x14mm, Pitch 0.5mm, IPC Low Density)
footprint STM-LQFP100_N (Thin QFP, 100-Leads, Body 14x14mm, Pitch 0.5mm, IPC Medium Density)
part A pins: 1 PE2 (io) "PE2/TRACECK,TIM3_ETR,TSC_G7_IO1,LCD_SEG38,FMC_A23,SAI1_MCLK_A,EVENTOUT", 2 PE3 (io) "PE3/TRACED0,TIM3_CH1,TSC_G7_IO2,LCD_SEG39,FMC_A19,SAI1_SD_B,EVENTOUT", 3 PE4 (io) "PE4/TRACED1,TIM3_CH2,DFSDM_DATIN3,TSC_G7_IO3,FMC_A20,SAI1_FS_A,EVENTOUT", 4 PE5 (io) "PE5/TRACED2,TIM3_CH3,DFSDM_CKIN3,TSC_G7_IO4,FMC_A21,SAI1_SCK_A,EVENTOUT", 5 PE6 (io) "PE6/TRACED3,TIM3_CH4,FMC_A22,SAI1_SD_A,EVENTOUT/RTC_TAMP3/WKUP3", 7 PC13 (io) "PC13/EVENTOUT/RTC_TAMP1/RTC_TS/RTC_OUT/WKUP2", 8 PC14-OSC32_IN(PC14) (io) "PC14-OSC32_IN(PC14)/EVENTOUT/OSC32_IN", 9 PC15-OSC32_OUT(PC15) (io) "PC15-OSC32_OUT(PC15)/EVENTOUT/OSC32_OUT", 12 PH0-OSC_IN(PH0) (io) "PH0-OSC_IN(PH0)/EVENTOUT/OSC_IN", 13 PH1-OSC_OUT(PH1) (io) "PH1-OSC_OUT(PH1)/EVENTOUT/OSC_OUT", 14 NRST (io), 15 PC0 (io) "PC0/LPTIM1_IN1,I2C3_SCL,DFSDM_DATIN4,LPUART1_RX,LCD_SEG18,LPTIM2_IN1,EVENTOUT/ADC123_IN1", 16 PC1 (io) "PC1/LPTIM1_OUT,I2C3_SDA,DFSDM_CKIN4,LPUART1_TX,LCD_SEG19,EVENTOUT/ADC123_IN2", 17 PC2 (io) "PC2/LPTIM1_IN2,SPI2_MISO,DFSDM_CKOUT,LCD_SEG20,EVENTOUT/ADC123_IN3", 18 PC3 (io) "PC3/LPTIM1_ETR,SPI2_MOSI,LCD_VLCD,SAI1_SD_A,LPTIM2_ETR,EVENTOUT/ADC123_IN4", 23 PA0 (io) "PA0/TIM2_CH1,TIM5_CH1,TIM8_ETR,USART2_CTS,UART4_TX,SAI1_EXTCLK,TIM2_ETR,EVENTOUT/OPAMP1_VINP,ADC12_IN5,RTC_TAMP2/WKUP1", 24 PA1 (io) "PA1/TIM2_CH2,TIM5_CH2,USART2_RTS_DE,UART4_RX,LCD_SEG0,TIM15_CH1N,EVENTOUT/OPAMP1_VINM,ADC12_IN6", 25 PA2 (io) "PA2/TIM2_CH3,TIM5_CH3,USART2_TX,LCD_SEG1,SAI2_EXTCLK,TIM15_CH1,EVENTOUT/ADC12_IN7,WKUP4/LSCO", 26 PA3 (io) "PA3/TIM2_CH4,TIM5_CH4,USART2_RX,LCD_SEG2,TIM15_CH2,EVENTOUT/OPAMP1_VOUT,ADC12_IN8", 29 PA4 (io) "PA4/SPI1_NSS,SPI3_NSS,USART2_CK,SAI1_FS_B,LPTIM2_OUT,EVENTOUT/ADC12_IN9,DAC1_OUT1", 30 PA5 (io) "PA5/TIM2_CH1,TIM2_ETR,TIM8_CH1N,SPI1_SCK,LPTIM2_ETR,EVENTOUT/ADC12_IN10,DAC1_OUT2", 31 PA6 (io) "PA6/TIM1_BKIN,TIM3_CH1,TIM8_BKIN,SPI1_MISO,USART3_CTS,QUADSPI_BK1_IO3,LCD_SEG3,TIM1_BKIN_COMP2,TIM8_BKIN_COMP2,TIM16_CH1,EVENTOUT/OPAMP2_VINP,ADC12_IN11", 32 PA7 (io) "PA7/TIM1_CH1N,TIM3_CH2,TIM8_CH1N,SPI1_MOSI,QUADSPI_BK1_IO2,LCD_SEG4,TIM17_CH1,EVENTOUT/OPAMP2_VINM,ADC12_IN12", 33 PC4 (io) "PC4/USART3_TX,LCD_SEG22,EVENTOUT/COMP1_INM,ADC12_IN13", 34 PC5 (io) "PC5/USART3_RX,LCD_SEG23,EVENTOUT/COMP1_INP,ADC12_IN14,WKUP5", 35 PB0 (io) "PB0/TIM1_CH2N,TIM3_CH3,TIM8_CH2N,USART3_CK,QUADSPI_BK1_IO1,LCD_SEG5,COMP1_OUT,EVENTOUT/OPAMP2_VOUT,ADC12_IN15", 36 PB1 (io) "PB1/TIM1_CH3N,TIM3_CH4,TIM8_CH3N,DFSDM_DATIN0,USART3_RTS_DE,QUADSPI_BK1_IO0,LCD_SEG6,LPTIM2_IN1,EVENTOUT/COMP1_INM,ADC12_IN16", 37 PB2 (io) "PB2/RTC_OUT,LPTIM1_OUT,I2C3_SMBA,DFSDM_CKIN0,EVENTOUT/COMP1_INP", 38 PE7 (io) "PE7/TIM1_ETR,DFSDM_DATIN2,FMC_D4,SAI1_SD_B,EVENTOUT", 39 PE8 (io) "PE8/TIM1_CH1N,DFSDM_CKIN2,FMC_D5,SAI1_SCK_B,EVENTOUT", 40 PE9 (io) "PE9/TIM1_CH1,DFSDM_CKOUT,FMC_D6,SAI1_FS_B,EVENTOUT", 41 PE10 (io) "PE10/TIM1_CH2N,DFSDM_DATIN4,TSC_G5_IO1,QUADSPI_CLK,FMC_D7,SAI1_MCLK_B,EVENTOUT", 42 PE11 (io) "PE11/TIM1_CH2,DFSDM_CKIN4,TSC_G5_IO2,QUADSPI_NCS,FMC_D8,EVENTOUT", 43 PE12 (io) "PE12/TIM1_CH3N,SPI1_NSS,DFSDM_DATIN5,TSC_G5_IO3,QUADSPI_BK1_IO0,FMC_D9,EVENTOUT", 44 PE13 (io) "PE13/TIM1_CH3,SPI1_SCK,DFSDM_CKIN5,TSC_G5_IO4,QUADSPI_BK1_IO1,FMC_D10,EVENTOUT", 45 PE14 (io) "PE14/TIM1_CH4,TIM1_BKIN2,TIM1_BKIN2_COMP2,SPI1_MISO,QUADSPI_BK1_IO2,FMC_D11,EVENTOUT", 46 PE15 (io) "PE15/TIM1_BKIN,TIM1_BKIN_COMP1,SPI1_MOSI,QUADSPI_BK1_IO3,FMC_D12,EVENTOUT", 47 PB10 (io) "PB10/TIM2_CH3,I2C2_SCL,SPI2_SCK,DFSDM_DATIN7,USART3_TX,LPUART1_RX,QUADSPI_CLK,LCD_SEG10,COMP1_OUT,SAI1_SCK_A,EVENTOUT", 48 PB11 (io) "PB11/TIM2_CH4,I2C2_SDA,DFSDM_CKIN7,USART3_RX,LPUART1_TX,QUADSPI_NCS,LCD_SEG11,COMP2_OUT,EVENTOUT", 51 PB12 (io) "PB12/TIM1_BKIN,TIM1_BKIN_COMP2,I2C2_SMBA,SPI2_NSS,DFSDM_DATIN1,USART3_CK,LPUART1_RTS_DE,TSC_G1_IO1,LCD_SEG12,SWPMI1_IO,SAI2_FS_A,TIM15_BKIN,EVENTOUT", 52 PB13 (io) "PB13/TIM1_CH1N,I2C2_SCL,SPI2_SCK,DFSDM_CKIN1,USART3_CTS,LPUART1_CTS,TSC_G1_IO2,LCD_SEG13,SWPMI1_TX,SAI2_SCK_A,TIM15_CH1N,EVENTOUT", 53 PB14 (io) "PB14/TIM1_CH2N,TIM8_CH2N,I2C2_SDA,SPI2_MISO,DFSDM_DATIN2,USART3_RTS_DE,TSC_G1_IO3,LCD_SEG14,SWPMI1_RX,SAI2_MCLK_A,TIM15_CH1,EVENTOUT", 54 PB15 (io) "PB15/RTC_REFIN,TIM1_CH3N,TIM8_CH3N,SPI2_MOSI,DFSDM_CKIN2,TSC_G1_IO4,LCD_SEG15,SWPMI1_SUSPEND,SAI2_SD_A,TIM15_CH2,EVENTOUT", 55 PD8 (io) "PD8/USART3_TX,LCD_SEG28,FMC_D13,EVENTOUT", 56 PD9 (io) "PD9/USART3_RX,LCD_SEG29,FMC_D14,SAI2_MCLK_A,EVENTOUT", 57 PD10 (io) "PD10/USART3_CK,TSC_G6_IO1,LCD_SEG30,FMC_D15,SAI2_SCK_A,EVENTOUT", 58 PD11 (io) "PD11/USART3_CTS,TSC_G6_IO2,LCD_SEG31,FMC_A16,SAI2_SD_A,LPTIM2_ETR,EVENTOUT", 59 PD12 (io) "PD12/TIM4_CH1,USART3_RTS_DE,TSC_G6_IO3,LCD_SEG32,FMC_A17,SAI2_FS_A,LPTIM2_IN1,EVENTOUT", 60 PD13 (io) "PD13/TIM4_CH2,TSC_G6_IO4,LCD_SEG33,FMC_A18,LPTIM2_OUT,EVENTOUT", 61 PD14 (io) "PD14/TIM4_CH3,LCD_SEG34,FMC_D0,EVENTOUT", 62 PD15 (io) "PD15/TIM4_CH4,LCD_SEG35,FMC_D1,EVENTOUT", 63 PC6 (io) "PC6/TIM3_CH1,TIM8_CH1,DFSDM_CKIN3,TSC_G4_IO1,LCD_SEG24,SDMMC1_D6,SAI2_MCLK_A,EVENTOUT", 64 PC7 (io) "PC7/TIM3_CH2,TIM8_CH2,DFSDM_DATIN3,TSC_G4_IO2,LCD_SEG25,SDMMC1_D7,SAI2_MCLK_B,EVENTOUT", 65 PC8 (io) "PC8/TIM3_CH3,TIM8_CH3,TSC_G4_IO3,LCD_SEG26,SDMMC1_D0,EVENTOUT", 66 PC9 (io) "PC9/TIM8_BKIN2,TIM3_CH4,TIM8_CH4,TSC_G4_IO4,OTG_FS_NOE,LCD_SEG27,SDMMC1_D1,SAI2_EXTCLK,TIM8_BKIN2_COMP1,EVENTOUT", 67 PA8 (io) "PA8/MCO,TIM1_CH1,USART1_CK,OTG_FS_SOF,LCD_COM0,LPTIM2_OUT,EVENTOUT", 68 PA9 (io) "PA9/TIM1_CH2,USART1_TX,LCD_COM1,TIM15_BKIN,EVENTOUT/OTG_FS_VBUS", 69 PA10 (io) "PA10/TIM1_CH3,USART1_RX,OTG_FS_ID,LCD_COM2,TIM17_BKIN,EVENTOUT", 70 PA11 (io) "PA11/TIM1_CH4,TIM1_BKIN2,USART1_CTS,CAN1_RX,OTG_FS_DM,TIM1_BKIN2_COMP1,EVENTOUT", 71 PA12 (io) "PA12/TIM1_ETR,USART1_RTS_DE,CAN1_TX,OTG_FS_DP,EVENTOUT", 72 PA13(JTMS-SWDIO) (io) "PA13(JTMS-SWDIO)/JTMS-SWDIO,IR_OUT,OTG_FS_NOE,EVENTOUT", 76 PA14(JTCK-SWCLK) (io) "PA14(JTCK-SWCLK)/JTCK-SWCLK,EVENTOUT", 77 PA15(JTDI) (io) "PA15(JTDI)/JTDI,TIM2_CH1,TIM2_ETR,SPI1_NSS,SPI3_NSS,UART4_RTS_DE,TSC_G3_IO1,LCD_SEG17,SAI2_FS_B,EVENTOUT", 78 PC10 (io) "PC10/SPI3_SCK,USART3_TX,UART4_TX,TSC_G3_IO2,LCD_COM4/LCD_SEG28/LCD_SEG40,SDMMC1_D2,SAI2_SCK_B,EVENTOUT", 79 PC11 (io) "PC11/SPI3_MISO,USART3_RX,UART4_RX,TSC_G3_IO3,LCD_COM5/LCD_SEG29/LCD_SEG41,SDMMC1_D3,SAI2_MCLK_B,EVENTOUT", 80 PC12 (io) "PC12/SPI3_MOSI,USART3_CK,UART5_TX,TSC_G3_IO4,LCD_COM6/LCD_SEG30/LCD_SEG42,SDMMC1_CK,SAI2_SD_B,EVENTOUT", 81 PD0 (io) "PD0/SPI2_NSS,DFSDM_DATIN7,CAN1_RX,FMC_D2,EVENTOUT", 82 PD1 (io) "PD1/SPI2_SCK,DFSDM_CKIN7,CAN1_TX,FMC_D3,EVENTOUT", 83 PD2 (io) "PD2/TIM3_ETR,USART3_RTS_DE,UART5_RX,TSC_SYNC,LCD_COM7/LCD_SEG31/LCD_SEG43,SDMMC1_CMD,EVENTOUT", 84 PD3 (io) "PD3/SPI2_MISO,DFSDM_DATIN0,USART2_CTS,FMC_CLK,EVENTOUT", 85 PD4 (io) "PD4/SPI2_MOSI,DFSDM_CKIN0,USART2_RTS_DE,FMC_NOE,EVENTOUT", 86 PD5 (io) "PD5/USART2_TX,FMC_NWE,EVENTOUT", 87 PD6 (io) "PD6/DFSDM_DATIN1,USART2_RX,FMC_NWAIT,SAI1_SD_A,EVENTOUT", 88 PD7 (io) "PD7/DFSDM_CKIN1,USART2_CK,FMC_NE1,EVENTOUT", 89 PB3(JTDO-TRACESWO) (io) "PB3(JTDO-TRACESWO)/JTDO-TRACESWO,TIM2_CH2,SPI1_SCK,SPI3_SCK,USART1_RTS_DE,LCD_SEG7,SAI1_SCK_B,EVENTOUT/COMP2_INM", 90 PB4(NJTRST) (io) "PB4(NJTRST)/NJTRST,TIM3_CH1,SPI1_MISO,SPI3_MISO,USART1_CTS,UART5_RTS_DE,TSC_G2_IO1,LCD_SEG8,SAI1_MCLK_B,TIM17_BKIN,EVENTOUT/COMP2_INP", 91 PB5 (io) "PB5/LPTIM1_IN1,TIM3_CH2,I2C1_SMBA,SPI1_MOSI,SPI3_MOSI,USART1_CK,UART5_CTS,TSC_G2_IO2,LCD_SEG9,COMP2_OUT,SAI1_SD_B,TIM16_BKIN,EVENTOUT", 92 PB6 (io) "PB6/LPTIM1_ETR,TIM4_CH1,TIM8_BKIN2,I2C1_SCL,DFSDM_DATIN5,USART1_TX,TSC_G2_IO3,TIM8_BKIN2_COMP2,SAI1_FS_B,TIM16_CH1N,EVENTOUT/COMP2_INP", 93 PB7 (io) "PB7/LPTIM1_IN2,TIM4_CH2,TIM8_BKIN,I2C1_SDA,DFSDM_CKIN5,USART1_RX,UART4_CTS,TSC_G2_IO4,LCD_SEG21,FMC_NL,TIM8_BKIN_COMP1,TIM17_CH1N,EVENTOUT/COMP2_INM,PVD_IN", 94 BOOT0 (in), 95 PB8 (io) "PB8/TIM4_CH3,I2C1_SCL,DFSDM_DATIN6,CAN1_RX,LCD_SEG16,SDMMC1_D4,SAI1_MCLK_A,TIM16_CH1,EVENTOUT", 96 PB9 (io) "PB9/IR_OUT,TIM4_CH4,I2C1_SDA,SPI2_NSS,DFSDM_CKIN6,CAN1_TX,LCD_COM3,SDMMC1_D5,SAI1_FS_A,TIM17_CH1,EVENTOUT", 97 PE0 (io) "PE0/TIM4_ETR,LCD_SEG36,FMC_NBL0,TIM16_CH1,EVENTOUT", 98 PE1 (io) "PE1/LCD_SEG37,FMC_NBL1,TIM17_CH1,EVENTOUT"
part B pins: 6 VBAT (power), 10 VSS (power), 11 VDD (power), 19 VSSA (power), 20 VREF- (power), 21 VREF+ (power) "VREF+/VREFBUF_OUT", 22 VDDA (power), 27 VSS (power), 28 VDD (power), 49 VSS (power), 50 VDD (power), 73 VDDUSB (power), 74 VSS (power), 75 VDD (power), 99 VSS (power), 100 VDD (power)